# Altium schematic symbol library Andy_Parts.SchLib: 182 symbols (part 1 of 2)
Pins are listed as number, name and electrical type; pins without a type are passive.

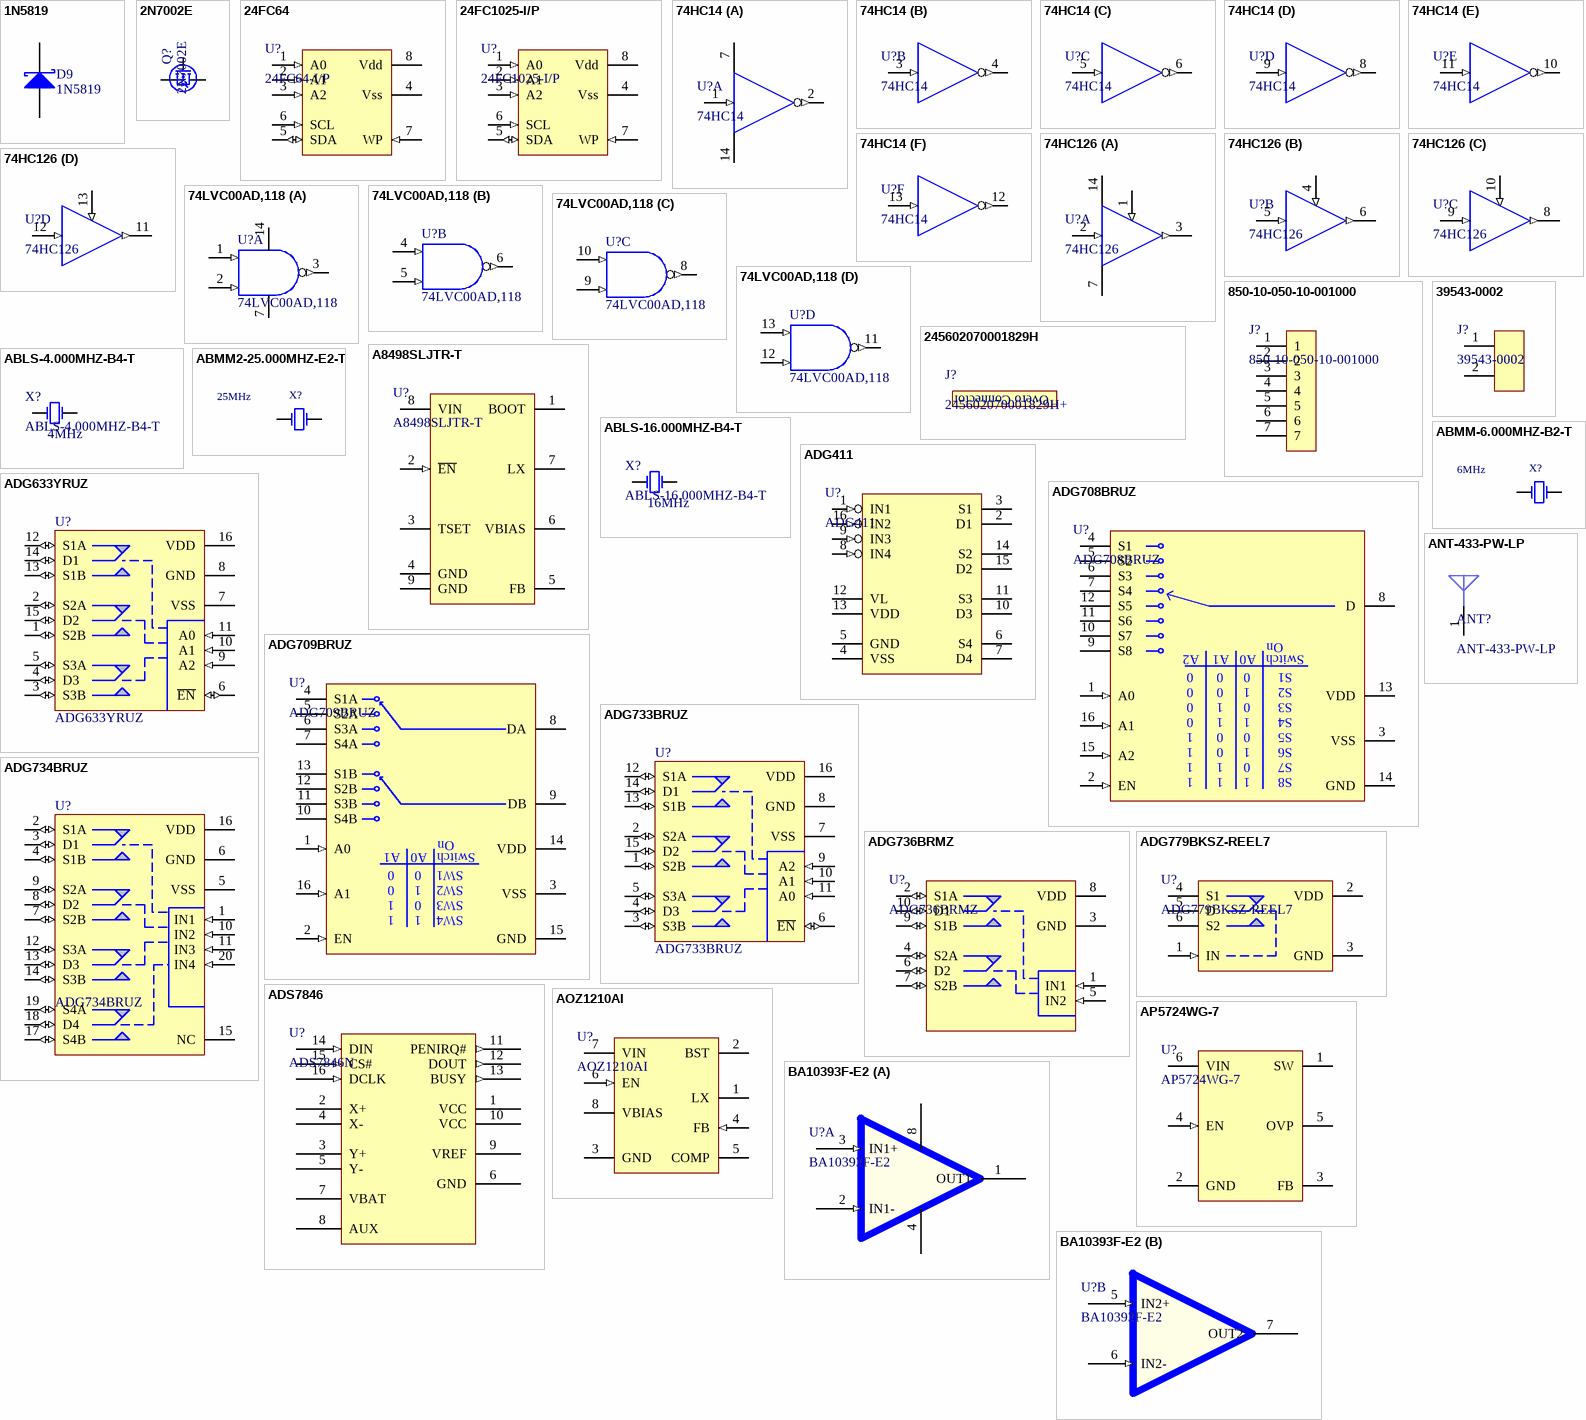
[diagram p0: symbols 1N5819 to BA10393F-E2]

## 1N5819
designator D9
Schottky Diode; Manufacturer: Fairchild Semiconductor; If: 1A; Vf: 0.6V; ReverseVoltage: 40V; PartNumber: 1N5819
footprint DO-41 (Diode, Axial; Body 5.2 x 2.7 mm (LxDia. max), Lead Dia. 0.86 mm (max))
pins: 1 A, 2 K

## 2N7002E
designator Q?
N-Channel MOSFET, 60V, 0.385A, 3ohms, SOT23; Manufacturer: NXP Semiconductor; TargetLibrary: Transistors; PartNumber: 2N7002E; Published: 8/13/2009; Publisher: Vanteon; LeadFree: Yes; RoHS: Yes; Status: Active; Supplier 1: Digi-Key; Supplier Part Number 1: 568-4858-1-ND
footprint SOT23 (SOT23, 3-Leads, Body 3.0x2.6mm, Pitch 0.95mm)
pins: 1 G, 2 S, 3 D

## 24FC64
designator U?, comment 24FC64-I/P
64k (8Kx 8) I2C serial EEPROM; Manufacturer: Microchip Technology; PartNumber: 24FC64-I/P
footprint DIp 8 (DIP, Plastic; 8 Leads; Row Spacing 7.62 mm; Pitch 2.54 mm)
pins: 1 A0 (in), 2 A1 (in), 3 A2 (in), 4 Vss (power), 5 SDA (io), 6 SCL (in), 7 WP (in), 8 Vdd (power)

## 24FC1025-I/P
designator U?
1024k (128K x 8) I2C serial EEPROM; Manufacturer: Microchip Technology; PartNumber: 24FC1025-I/P
footprint DIp 8 (DIP, Plastic; 8 Leads; Row Spacing 7.62 mm; Pitch 2.54 mm)
pins: 1 A0 (in), 2 A1 (in), 3 A2 (in), 4 Vss (power), 5 SDA (io), 6 SCL (in), 7 WP (in), 8 Vdd (power)

## 74HC14
designator U?
Hex Schottky inverter; Manufacturer: Fairchild Semiconductor; PartNumber: 74HC14
footprint DIP 14 (DIP, Plastic; 14 Leads; Row Spacing 7.62 mm; Pitch 2.54 mm)
part A pins: 1 In (in), 2 Out (out), 7 VCC (power), 14 GND (power)
part B pins: 3 In (in), 4 Out (out)
part C pins: 5 In (in), 6 Out (out)
part D pins: 8 Out (out), 9 In (in)
part E pins: 10 Out (out), 11 In (in)
part F pins: 12 Out (out), 13 In (in)

## 74HC126
designator U?
Quad tristate buffer; Manufacturer: Fairchild Semiconductor; PartNumber: 74HC126
footprint DIP 14 (DIP, Plastic; 14 Leads; Row Spacing 7.62 mm; Pitch 2.54 mm)
part A pins: 1 En (in), 2 In (in), 3 Out (out), 7 GND (power), 14 VCC (power)
part B pins: 4 En (in), 5 In (in), 6 Out (out)
part C pins: 8 Out (out), 9 In (in), 10 En (in)
part D pins: 11 Out (out), 12 In (in), 13 En (in)

## 74LVC00AD,118
designator U?
IC QUAD 2-IN NAND GATE 14-SOIC; Manufacturer: NXP Semiconductors; PartNumber: 74LVC00AD,118
footprint SOIC127P600X175-14N (SOIC, 14-Leads, Body 8.8x4.0mm (max), Pitch 1.27mm, IPC Medium Density)
part A pins: 1 1A (in), 2 1B (in), 3 1Y (out), 7 GND (power), 14 VCC (power)
part B pins: 4 2A (in), 5 2B (in), 6 2Y (out)
part C pins: 8 3Y (out), 9 3A (in), 10 3B (in)
part D pins: 11 4Y (out), 12 4A (in), 13 4B (in)

## 850-10-050-10-001000
designator J?
CONN HEADER .050" 50POS PCB GOLD; Manufacturer: Mill-Max; PartNumber: 850-10-050-10-001000
footprint 850-10-050-10-001000 (CONN HEADER .050" 50POS PCB GOLD)
pins: 1, 2, 3, 4, 5, 6, 7

## 39543-0002
designator J?
Molex 2 pos. terminal block, screw, wire to board; Manufacturer: Molex; PartNumber: 39543-0002
footprint Molex_Term_Block (Molex 2 pos. terminal block, wire to board)
pins: 1, 2

## 245602070001829H
designator J?, comment 245602070001829H+  (mechanical)
1.5mm stack height 70 pin connector; Manufacturer: Kyocera - Elco; PartNumber: 245602070001829H+; PartNumber2: 245602070001829H; PartNumber3: 245602070001829
text: Overo Connector

## A8498SLJTR-T
designator U?
IC REG HV 3A STEP DOWN 8-SOIC; Manufacturer: Allegro Microsystems, Inc.; PartNumber: A8498SLJTR-T
footprint SOIC127P600X170_HS-8N (SOIC, 8-Leads, Body 5.0x4.0mm (max), Pitch 1.27mm, IPC Medium Density)
pins: 1 BOOT, 2 ~{EN} (in), 3 TSET, 4 GND (power), 5 FB, 6 VBIAS, 7 LX, 8 VIN (power), 9 GND (power)

## ABLS-4.000MHZ-B4-T
designator X?  value 4MHz
CRYSTAL 4.000 MHZ 18PF SMD; Manufacturer: Abracon; PartNumber: ABLS-4.000MHZ-B4-T
footprint HCM49
pins: 1 OSC1, 2 OSC2

## ABLS-16.000MHZ-B4-T
designator X?  value 16MHz
CRYSTAL 16.000 MHZ 18PF SMD; Manufacturer: Abracon; PartNumber: ABLS-16.000MHZ-B4-T
footprint HCM49
pins: 1 OSC1, 2 OSC2

## ABMM2-25.000MHZ-E2-T
designator X?, comment 25MHz
Crystal 25MHz , 13pF, 6.0mm x 3.6mm, +/- 20ppm; PartNumber: ABMM2-25.000MHZ-E2-T; Manufacturer: Abracon Corporation; Tolerance: 20ppm; Value: 25MHz
footprint ABMM2 Series (Abracon ABMM2 series crystals)
pins: 1 OSC1, 3 OSC2

## ABMM-6.000MHZ-B2-T
designator X?, comment 6MHz
Crystal 6MHz , 18pF, 7.0mm x 5mm, +/- 50ppm; PartNumber: ABMM-6.000MHZ-B2-T; Manufacturer: Abracon Corporation; Tolerance: 50ppm; Value: 6MHz
footprint ABMM Series (Abracon ABMM series crystals)
pins: 1 OSC1, 3 OSC2

## ADG411
designator U?
Precision quad SPST switch; Manufacturer: Analog Devices; PartNumber: ADG411
footprint DIP 16 (DIP; 16 Leads; Row Spacing 7.62 mm; Pitch 2.54 mm)
pins: 1 IN1 (in), 2 D1, 3 S1, 4 VSS (power), 5 GND (power), 6 S4, 7 D4, 8 IN4 (in), 9 IN3 (in), 10 D3, 11 S3, 12 VL (power), 13 VDD (power), 14 S2, 15 D2, 16 IN2 (in)

## ADG633YRUZ
designator U?
CMOS ±5 V/+5 V/+3 V Triple SPDT Switch, TSSOP-16; Manufacturer: Analog Devices; Approved: Yes - M. Jablonski; TargetLibrary: Analog IC's; PartNumber: ADG633YRUZ; RoHS: Yes; LeadFree: Yes; Publisher: J. Johnson - Vanteon; Published: 6/24/2009; Status: Active; ComponentLink1URL: http://www.analog.com/static/imported-files/data_sheets/ADG633.pdf; ComponentLink1Description: Datasheet; Supplier 1: Digi-Key; Supplier Part Number 1: ADG633YRUZ-ND
pins: 1 S2B (io), 2 S2A (io), 3 S3B (io), 4 D3 (io), 5 S3A (io), 6 ~{EN} (io), 7 VSS (power), 8 GND (power), 9 A2 (in), 10 A1 (in), 11 A0 (in), 12 S1A (io), 13 S1B (io), 14 D1 (io), 15 D2 (io), 16 VDD (power)

## ADG708BRUZ
designator U?
IC MULTIPLEXER 8X1 16TSSOP; Manufacturer: Analog Devices; PartNumber: ADG708BRUZ
footprint TSSOP16 (SSOP, 16-Leads, Body 5.1x4.5mm (max), Pitch 0.65mm, IPC Medium Density)
pins: 1 A0 (in), 2 EN (in), 3 VSS (power), 4 S1, 5 S2, 6 S3, 7 S4, 8 D, 9 S8, 10 S7, 11 S6, 12 S5, 13 VDD (power), 14 GND (power), 15 A2 (in), 16 A1 (in)
text: On; Switch; 0

## ADG709BRUZ
designator U?
IC MULTIPLEXER DUAL 4X1 16TSSOP; Manufacturer: Analog Devices; PartNumber: ADG709BRUZ
footprint TSSOP16 (SSOP, 16-Leads, Body 5.1x4.5mm (max), Pitch 0.65mm, IPC Medium Density)
pins: 1 A0 (in), 2 EN (in), 3 VSS (power), 4 S1A, 5 S2A, 6 S3A, 7 S4A, 8 DA, 9 DB, 10 S4B, 11 S3B, 12 S2B, 13 S1B, 14 VDD (power), 15 GND (power), 16 A1 (in)
text: On; Switch; 0; SW1; SW2; SW3; SW4

## ADG733BRUZ
designator U?
IC SWITCH TRIPLE SPDT 16TSSOP; Manufacturer: Analog Devices; PartNumber: ADG733BRUZ
footprint TSSOP16 (SSOP, 16-Leads, Body 5.1x4.5mm (max), Pitch 0.65mm, IPC Medium Density)
pins: 1 S2B (io), 2 S2A (io), 3 S3B (io), 4 D3 (io), 5 S3A (io), 6 ~{EN} (io), 7 VSS (power), 8 GND (power), 9 A2 (in), 10 A1 (in), 11 A0 (in), 12 S1A (io), 13 S1B (io), 14 D1 (io), 15 D2 (io), 16 VDD (power)

## ADG734BRUZ
designator U?
IC SWITCH QUAD SPDT 20TSSOP; Manufacturer: Analog Devices; PartNumber: ADG734BRUZ
footprint TSOP65P640X120-20N (TSOP, 20-Leads, Body 6.6x4.5mm (max), Pitch 0.65mm, IPC Medium Density)
pins: 1 IN1 (in), 2 S1A (io), 3 D1 (io), 4 S1B (io), 5 VSS (power), 6 GND (power), 7 S2B (io), 8 D2 (io), 9 S2A (io), 10 IN2 (in), 11 IN3 (in), 12 S3A (io), 13 D3 (io), 14 S3B (io), 15 NC, 16 VDD (power), 17 S4B (io), 18 D4 (io), 19 S4A (io), 20 IN4 (in)

## ADG736BRMZ
designator U?
IC SWITCH DUAL SPDT 10MSOP; Manufacturer: AnalogDevices; PartNumber: ADG736BRMZ
footprint MSOP10_50P490X110 (MSOP, 10-Leads, Body 3.1x3.1mm (max), Pitch 0.50mm, IPC Medium Density)
pins: 1 IN1 (in), 2 S1A (io), 3 GND (power), 4 S2A (io), 5 IN2 (in), 6 D2 (io), 7 S2B (io), 8 VDD (power), 9 S1B (io), 10 D1 (io)

## ADG779BKSZ-REEL7
designator U?
IC SWITCH SPDT SC70-6; Manufacturer: Analog Devices; PartNumber: ADG779BKSZ-REEL7
footprint SC70-6P210X110-6N (SC-70, 6-Leads, Body 2.2x2.4mm (max), Pitch 0.65mm, IPC Medium Density)
pins: 1 IN (in), 2 VDD (power), 3 GND (power), 4 S1, 5 D, 6 S2

## ADS7846
designator U?, comment ADS7846N
IC 4WIRE TOUCH SCRN CONT 16TSSOP; Manufacturer: Texas Instruments; PartNumber: ADS7846N
footprint TSSOP16 (SSOP, 16-Leads, Body 5.1x4.5mm (max), Pitch 0.65mm, IPC Medium Density)
pins: 1 VCC (power), 2 X+, 3 Y+, 4 X-, 5 Y-, 6 GND (power), 7 VBAT, 8 AUX, 9 VREF (power), 10 VCC (power), 11 PENIRQ# (out), 12 DOUT (out), 13 BUSY (out), 14 DIN (in), 15 CS# (in), 16 DCLK (in)

## ANT-433-PW-LP
designator ANT?
433MHz antenna, 12MHz bandwidth; Manufacturer: Antenna Factor; PartNumber: ANT-433-PW-LP; Value: 433MHz
footprint ANT-433-PW-LP (433MHz antenna footprint)
pins: 1

## AOZ1210AI
designator U?
4.5V to 27V buck converter, 2A max; Manufacturer: Alpha & Omega Semiconductor Inc; PartNumber: AOZ1210AI
footprint SOIC8N (SOIC, 8-Leads, Body 5.0x4.0mm (max), Pitch 1.27mm, IPC Medium Density)
pins: 1 LX, 2 BST, 3 GND (power), 4 FB (in), 5 COMP, 6 EN (in), 7 VIN (power), 8 VBIAS

## AP5724WG-7
designator U?
IC LED DRVR WHITE BCKLGT SOT26-6; Manufacturer: Diodes Inc.; PartNumber: AP5724WG-7
footprint SOT26-6 (SOT23, 6-Leads, Body 3.0x3.0mm (max), Pitch 0.95mm, IPC Medium Density)
pins: 1 SW, 2 GND (power), 3 FB, 4 EN (in), 5 OVP, 6 VIN (power)

## BA10393F-E2
designator U?
IC COMPARATOR 2-CHANNEL; Manufacturer: Rohm; PartNumber: BA10393F-E2
footprint SOIC8N (SOIC, 8-Leads, Body 5.0x4.0mm (max), Pitch 1.27mm, IPC Medium Density)
part A pins: 1 OUT1 (oc), 2 IN1- (in), 3 IN1+ (in), 4 VEE (power), 8 VCC (power)
part B pins: 5 IN2+ (in), 6 IN2- (in), 7 OUT2 (oc)

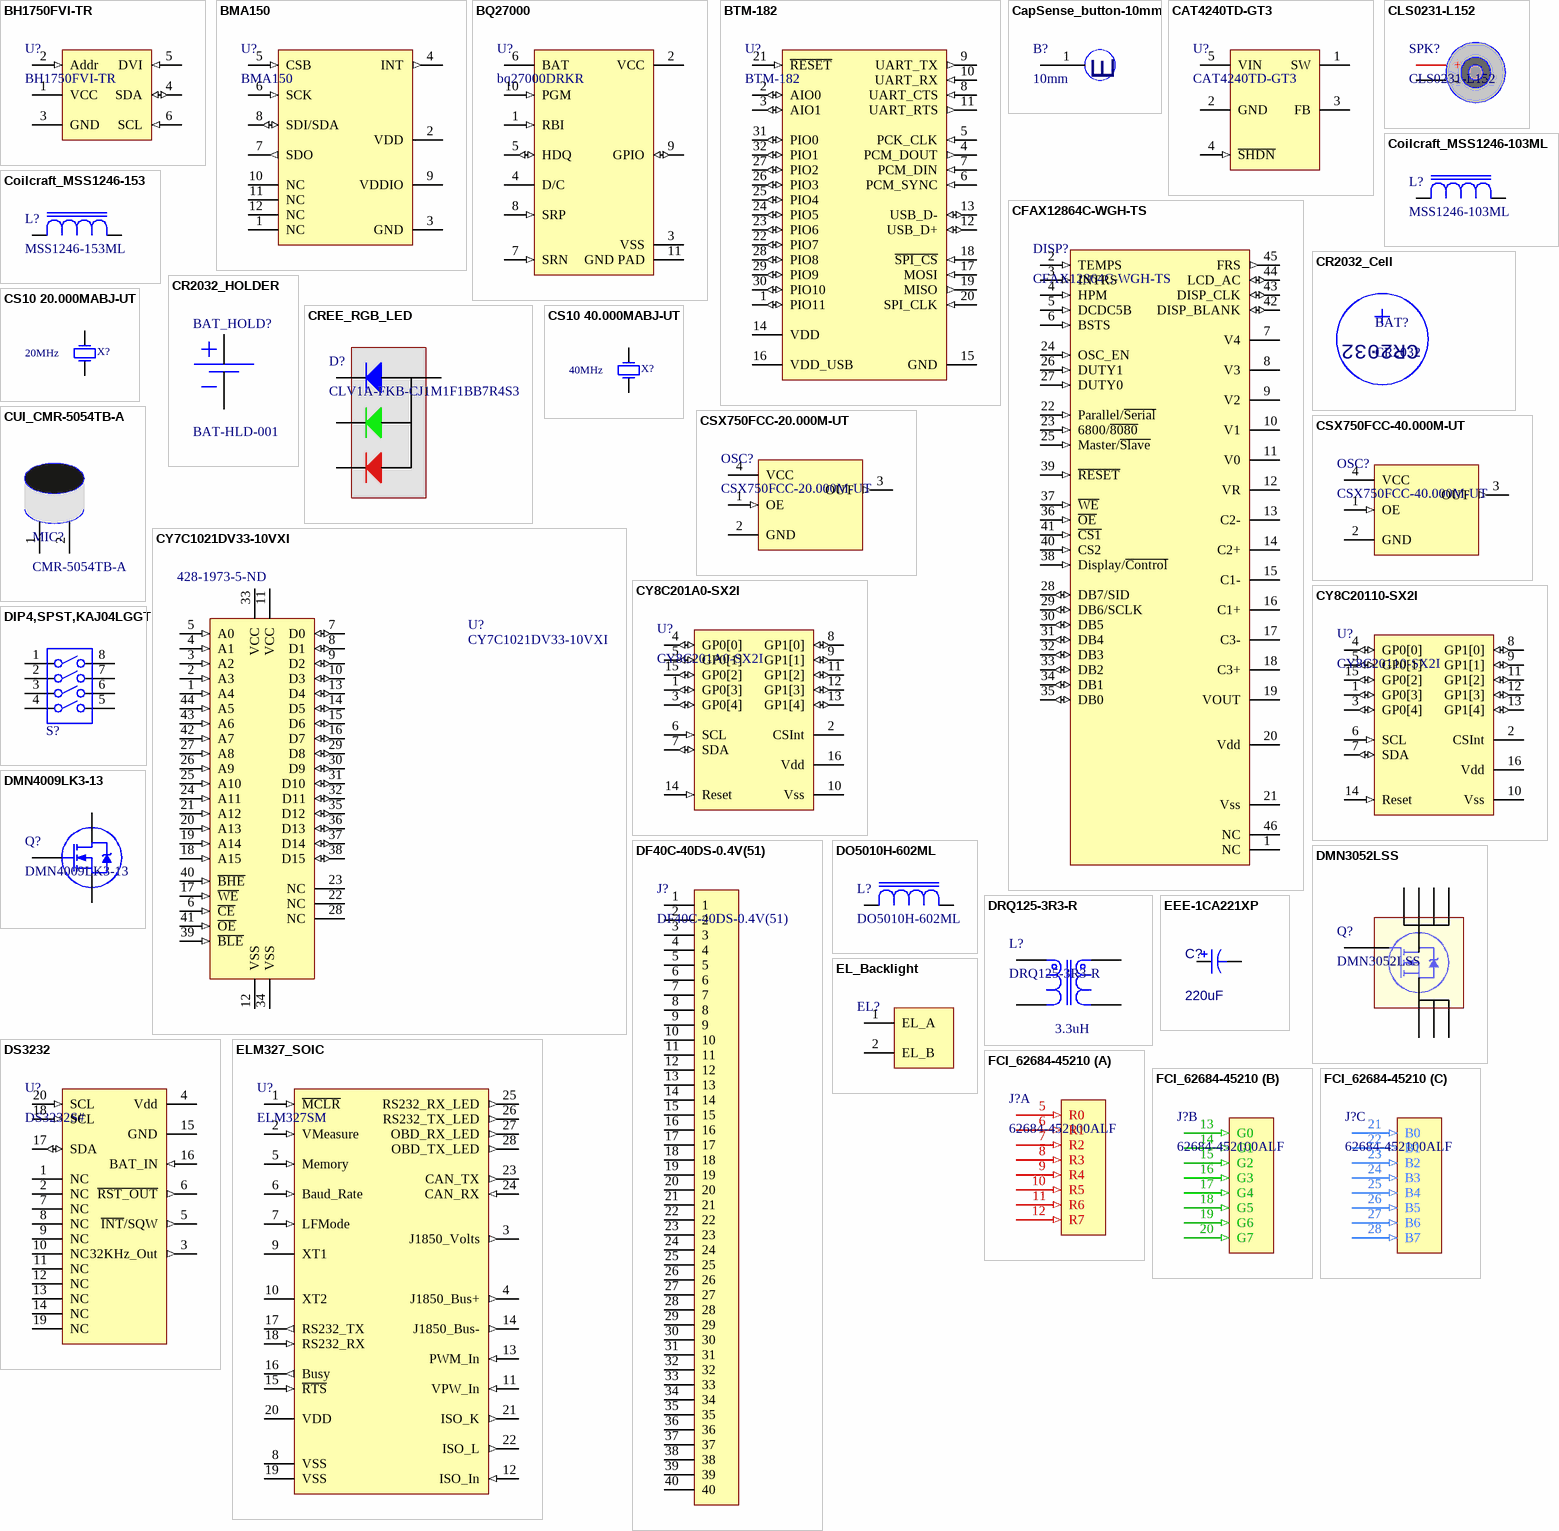
[diagram p1: symbols BH1750FVI-TR to FCI_62684-45210]

## BH1750FVI-TR
designator U?
IC AMBIENT LIGHT SENSOR WSOF6; Manufacturer: Rohm; PartNumber: BH1750FVI-TR
footprint WSOF-6N (TSSOP, 6-Leads, Body 1.7x2.7mm (max), Pitch 0.50mm, IPC Medium Density)
pins: 1 VCC (power), 2 Addr (in), 3 GND (power), 4 SDA (io), 5 DVI (in), 6 SCL (in)

## BMA150
designator U?
Digital, triaxial acceleration sensor; Manufacturer: Bosch Sensortec; PartNumber: BMA150
footprint BMA150
pins: 1 NC, 2 VDD (power), 3 GND (power), 4 INT (out), 5 CSB (in), 6 SCK (in), 7 SDO (out), 8 SDI/SDA (io), 9 VDDIO (power), 10 NC, 11 NC, 12 NC

## BQ27000
designator U?, comment bq27000DRKR
SINGLE CELL Li-Ion AND Li-Pol BATTERY GAS GAUGE IC FOR PORTABLE  APPLICATIONS (bqJUNIOR); Manufacturer: Texas Instruments; PartNumber: bq27000DRKR
footprint bq27000 (Footprint for BQ27000)
pins: 1 RBI (in), 2 VCC (power), 3 VSS (power), 4 D/C, 5 HDQ (io), 6 BAT (power), 7 SRN (in), 8 SRP (in), 9 GPIO (io), 10 PGM (in), 11 GND PAD (power)

## BTM-182
designator U?
Rayson BTM-182 Bluetooth Serial Module; Manufacturer: Rayson; PartNumber: BTM-182
footprint BTM-182 (Rayson BTM-182 Bluetooth serial module footprint)
pins: 1 PIO11 (io), 2 AIO0 (io), 3 AIO1 (io), 4 PCM_DOUT (out), 5 PCK_CLK (in), 6 PCM_SYNC (in), 7 PCM_DIN (in), 8 UART_CTS (in), 9 UART_TX (out), 10 UART_RX (in), 11 UART_RTS (out), 12 USB_D+ (io), 13 USB_D- (io), 14 VDD (power), 15 GND (power), 16 VDD_USB (power), 17 MOSI (in), 18 ~{SPI_CS} (in), 19 MISO (out), 20 SPI_CLK (in), 21 ~{RESET} (in), 22 PIO7 (io), 23 PIO6 (io), 24 PIO5 (io), 25 PIO4 (io), 26 PIO3 (io), 27 PIO2 (io), 28 PIO8 (io), 29 PIO9 (io), 30 PIO10 (io), 31 PIO0 (io), 32 PIO1 (io)

## CapSense_button-10mm
designator B?, comment 10mm  (graphical)
CapSense Button, 10mm; Value: 10mm
footprint CapSenseButton-10mm (CapSense Button, 10mm diameter)
pins: 1
text: E

## CAT4240TD-GT3
designator U?
IC LED DRVR WHITE BCKLGHT TSOT-5; Manufacturer: ON Semiconductor; PartNumber: CAT4240TD-GT3
footprint SOT-23-5 (SOT23, 5-Leads, Body 3.0x3.0mm (max), Pitch 0.95mm, IPC Medium Density)
pins: 1 SW, 2 GND (power), 3 FB, 4 ~{SHDN} (in), 5 VIN (power)

## CFAX12864C-WGH-TS
designator DISP?
128x64 graphic LCD with touchscreen and EL backlight; Manufacturer: Crystal Fontz; PartNumber: CFAX12864C-WGH-TS
footprint CFAX_LCD (Crystal Fontz 128 x 64 graphic LCD solder down area)
pins: 1 NC, 2 TEMPS (in), 3 INTRS (in), 4 HPM (in), 5 DCDC5B (in), 6 BSTS (in), 7 V4, 8 V3, 9 V2, 10 V1, 11 V0, 12 VR, 13 C2-, 14 C2+, 15 C1-, 16 C1+, 17 C3-, 18 C3+, 19 VOUT, 20 Vdd (power), 21 Vss (power), 22 Parallel/~{Serial} (in), 23 6800/~{8080} (in), 24 OSC_EN (in), 25 Master/~{Slave} (in), 26 DUTY1 (in), 27 DUTY0 (in), 28 DB7/SID (io), 29 DB6/SCLK (io), 30 DB5 (io), 31 DB4 (io), 32 DB3 (io), 33 DB2 (io), 34 DB1 (io), 35 DB0 (io), 36 ~{OE} (in), 37 ~{WE} (in), 38 Display/~{Control} (in), 39 ~{RESET} (in), 40 CS2 (in), 41 ~{CS1} (in), 42 DISP_BLANK (io), 43 DISP_CLK (io), 44 LCD_AC (io), 45 FRS (out), 46 NC

## CLS0231-L152
designator SPK?
SPEAKER 8OHMS 1.0W 23MM 6" LEADS; Manufacturer: CUI Inc; PartNumber: CLS0231-L152
footprint CLS0231-L152 (SPEAKER 8OHMS 1.0W 23MM 6" LEADS)
pins: 1 + (power), 2 - (power)

## Coilcraft_MSS1246-103ML
designator L?, comment MSS1246-103ML
Inductor, 10uH, MSS1246 series; Manufacturer: Coilcraft; PartNumber: MSS1246-103ML; Value: 10uH
footprint COILCRAFT_MSS1246 (Precision Wire Wound Inductor, 2-Leads, Body 12.0x12.0mm, IPC Medium Density)
pins: 1, 2

## Coilcraft_MSS1246-153
designator L?, comment MSS1246-153ML
Inductor, 15uH, MSS1246 series; Manufacturer: Coilcraft; PartNumber: MSS1246-153ML; Value: 15uH
footprint COILCRAFT_MSS1246 (Precision Wire Wound Inductor, 2-Leads, Body 12.0x12.0mm, IPC Medium Density)
pins: 1, 2

## CR2032_Cell
designator BAT?, comment CR2032  (mechanical)
CR2032 3V lithium coin cell; Manufacturer: Panasonic; Capacity: 225mA; Voltage: 3; Note: Requires battery holder; PartNumber: CR2032

## CR2032_HOLDER
designator BAT_HOLD?, comment BAT-HLD-001
CR2032 battery holder; Manufacturer: Linx Technologies Inc.; PartNumber: BAT-HLD-001
footprint CR2032_Holder (CR2032 Lithium Battery Holder)
pins: 1 + (power), 2 - (power)

## CREE_RGB_LED
designator D?, comment CLV1A-FKB-CJ1M1F1BB7R4S3
Cree RGB LED; Manufacturer: Cree Inc.; Vf_Red: 2V; Vf_Green: 3.2V; If_Max_Red: 50mA; If_Max_Blue: 25mA; PartNumber: CLV1A-FKB-CJ1M1F1BB7R4S3; Vf_Blue: 3.2V; If_Max_Green: 25mA
footprint CREE_RGB_LED (Cree Surface Mount RGB LED)
pins: 1, 2, 3, 4

## CS10 20.000MABJ-UT
designator X?, comment 20MHz
Crystal 20MHz , 18pF, 6.0mm x 3.5mm, +- 30ppm; PartNumber: CS10 20.000MABJ-UT; Manufacturer: Citizen America Corporation; Tolerance: 30ppm; Value: 20MHz
footprint Crystal_6mmx3.5mm (Citizen Crystal 6mm x 3.5mm)
pins: 1 OSC1, 2 OSC2

## CS10 40.000MABJ-UT
designator X?, comment 40MHz
Crystal 40MHz , 18pF, 6.0mm x 3.5mm, +- 30ppm; PartNumber: CS10 40.000MABJ-UT; Manufacturer: Citizen America Corporation; Tolerance: 30ppm; Value: 40MHz
footprint Crystal_6mmx3.5mm (Citizen Crystal 6mm x 3.5mm)
pins: 1 OSC1, 2 OSC2

## CSX750FCC-20.000M-UT
designator OSC?
SMD 20MHz 5V 50pF, Ceramic, 100ppm, -20C - +70C; Manufacturer: Citizen; PartNumber: CSX750FCC-20.000M-UT
footprint Oscillator, 5x7mm (Citizen 5x7mm oscillator footprint)
pins: 1 OE (in), 2 GND (power), 3 OUT (out), 4 VCC (power)

## CSX750FCC-40.000M-UT
designator OSC?
SMD 40MHz 5V 50pF, Ceramic, 100ppm, -20C - +70C; Manufacturer: Citizen; PartNumber: CSX750FCC-40.000M-UT
footprint Oscillator, 5x7mm (Citizen 5x7mm oscillator footprint)
pins: 1 OE (in), 2 GND (power), 3 OUT (out), 4 VCC (power)

## CUI_CMR-5054TB-A
designator MIC?, comment CMR-5054TB-A
MIC CONDENSER ELECT N/C -54DB; Manufacturer: CUI Inc.; PartNumber: CMR-5054TB-A
footprint CUI_CMR-5054TB-A (MIC CONDENSER ELECT N/C -54DB)
pins: 1 Signal, 2 GND

## CY7C1021DV33-10VXI
designator U?  Supplier Part Number 1: 428-1973-5-ND
64K x 16 Static RAM; Manufacturer: Cypress Semiconductor; PartNumber: CY7C1021DV33-10VXI; Supplier 1: Digi-Key
footprint Z44_N (SOP, 44-Leads, Body 18.4x10.16mm, Pitch 0.8mm, IPC Medium Density)
pins: 1 A4 (in), 2 A3 (in), 3 A2 (in), 4 A1 (in), 5 A0 (in), 6 ~{CE} (in), 7 D0 (io), 8 D1 (io), 9 D2 (io), 10 D3 (io), 11 VCC (power), 12 VSS (power), 13 D4 (io), 14 D5 (io), 15 D6 (io), 16 D7 (io), 17 ~{WE} (in), 18 A15 (in), 19 A14 (in), 20 A13 (in), 21 A12 (in), 22 NC, 23 NC, 24 A11 (in), 25 A10 (in), 26 A9 (in), 27 A8 (in), 28 NC, 29 D8 (io), 30 D9 (io), 31 D10 (io), 32 D11 (io), 33 VCC (power), 34 VSS (power), 35 D12 (io), 36 D13 (io), 37 D14 (io), 38 D15 (io), 39 ~{BLE} (in), 40 ~{BHE} (in), 41 ~{OE} (in), 42 A7 (in), 43 A6 (in), 44 A5 (in)

## CY8C201A0-SX2I
designator U?
Capsense Express, 10 configurable IO; Manufacturer: Cypress Semiconductor; PartNumber: CY8C201A0-SX2I
footprint SOIC16 (SOIC, 16-Leads, Body 10.0x4.0mm (max), Pitch 1.27mm, IPC Medium Density)
pins: 1 GP0[3] (io), 2 CSInt, 3 GP0[4] (io), 4 GP0[0] (io), 5 GP0[1] (io), 6 SCL (in), 7 SDA (io), 8 GP1[0] (io), 9 GP1[1] (io), 10 Vss (power), 11 GP1[2] (io), 12 GP1[3] (io), 13 GP1[4] (io), 14 Reset (in), 15 GP0[2] (io), 16 Vdd (power)

## CY8C20110-SX2I
designator U?
Capsense Express, 10 configurable IO; Manufacturer: Cypress Semiconductor; PartNumber: CY8C20110-SX2I
footprint SOIC16 (SOIC, 16-Leads, Body 10.0x4.0mm (max), Pitch 1.27mm, IPC Medium Density)
pins: 1 GP0[3] (io), 2 CSInt, 3 GP0[4] (io), 4 GP0[0] (io), 5 GP0[1] (io), 6 SCL (in), 7 SDA (io), 8 GP1[0] (io), 9 GP1[1] (io), 10 Vss (power), 11 GP1[2] (io), 12 GP1[3] (io), 13 GP1[4] (io), 14 Reset (in), 15 GP0[2] (io), 16 Vdd (power)

## DF40C-40DS-0.4V(51)
designator J?
CONN RCPT 40POS .4MM VERT SMD; Manufacturer: Hirose; PartNumber: DF40C-40DS-0.4V(51)
footprint DF40C-40DS-0.4V(51) (Hirose 40 pin board stacking connector)
pins: 1, 2, 3, 4, 5, 6, 7, 8, 9, 10, 11, 12, 13, 14, 15, 16, 17, 18, 19, 20, 21, 22, 23, 24, 25, 26, 27, 28, 29, 30, 31, 32, 33, 34, 35, 36, 37, 38, 39, 40

## DIP4,SPST,KAJ04LGGT
designator S?, comment KAJ04LGGT  (value not drawn)
DIP4, SPST KAJ04LGGT; Manufacturer: E-Switch; PartNumber: KAJ04LGGT
footprint Dip_Switch_4POS (4 position dip switch, E-Switch)
pins: 1 A, 2 A, 3 A, 4 A, 5 B, 6 B, 7 B, 8 B

## DMN3052LSS
designator Q?
SINGLE N-CHANNEL ENHANCEMENT MODE MOSFET; Manufacturer: Diodes Inc.; PartNumber: DMN3052LSS
footprint SOIC8N (SOIC, 8-Leads, Body 5.0x4.0mm (max), Pitch 1.27mm, IPC Medium Density)
pins: 1 Source, 2 Source, 3 Source, 4 Gate, 5 Drain, 6 Drain, 7 Drain, 8 Drain

## DMN4009LK3-13
designator Q?
40V N-CHANNEL ENHANCEMENT MODE MOSFET; Manufacturer: Diodes/Zetex; RDSon: 0.0085 Ohm; PartNumber: DMN4009LK3-13
footprint D2PAK (D2-PAK/TO-263-AB; 3 Leads (1 Cropped); Body 15.5 (inc. leads) x 10.5 mm (LxW max))
pins: 1 G, 2 S, 3 D

## DO5010H-602ML
designator L?
6uH, 12A peak, 7.5Arms, unshielded inductor; Manufacturer: Coilcraft; PartNumber: DO5010H-602ML; Value: 6uH
footprint DO5010H-602ML (Coilcraft DO5010H series inductor footprint)
pins: 1, 2

## DRQ125-3R3-R
designator L?  value 3.3uH
3.3uH dual winding, shielded inductor, 6.3mOhm, 9.26A; Manufacturer: Coiltronics; PartNumber: DRQ125-3R3-R
footprint DRQ-125_Series (Coiltronics DRQ125 series dual inductor)
pins: 1, 2, 3, 4

## DS3232
designator U?, comment DS3232S#
Extremely accurate RTC with SRAM. I2C; Manufacturer: Maxim; PartNumber: DS3232S#
footprint SO20 (300 mil wide SOIC, 20 pins)
pins: 1 NC, 2 NC, 3 32KHz_Out (out), 4 Vdd (power), 5 ~{INT}/SQW (out), 6 ~{RST_OUT} (out), 7 NC, 8 NC, 9 NC, 10 NC, 11 NC, 12 NC, 13 NC, 14 NC, 15 GND (power), 16 BAT_IN (in), 17 SDA (io), 18 SCL (in), 19 NC, 20 SCL (in)

## EEE-1CA221XP
designator C?, comment 220uF
CAP ELECT 220UF 16V VS SMD; Manufacturer: Panasonic; PartNumber: EEE-1CA221XP; Tolerance: +/-20%; Value: 220uF; Voltage: 16V
footprint Panasonic_D8 (Panasonic D8 size code electrolytic capacitor)
pins: 1, 2

## EL_Backlight
designator EL?  (value not drawn)  (no BOM)
EL Backlight for Crystal Fontz Graphic LCD
footprint LCD_EL_BACKLIGHT (Graphic LCD with EL backlight)
pins: 1 EL_A (power), 2 EL_B (power)

## ELM327_SOIC
designator U?, comment ELM327SM
OBDII Interpreter IC; Manufacturer: Elm Electronics; PartNumber: ELM327SM
footprint SOIC127P1030X264-28N (SOIC, 28-Leads, Body 18.1x7.6mm (max), Pitch 1.27mm, IPC Medium Density)
pins: 1 ~{MCLR} (in), 2 VMeasure (in), 3 J1850_Volts (out), 4 J1850_Bus+ (out), 5 Memory (in), 6 Baud_Rate (in), 7 LFMode (in), 8 VSS (power), 9 XT1, 10 XT2, 11 VPW_In (in), 12 ISO_In (in), 13 PWM_In (in), 14 J1850_Bus- (out), 15 ~{RTS} (in), 16 Busy (out), 17 RS232_TX (out), 18 RS232_RX (in), 19 VSS (power), 20 VDD (power), 21 ISO_K (out), 22 ISO_L (out), 23 CAN_TX (out), 24 CAN_RX (in), 25 RS232_RX_LED (out), 26 RS232_TX_LED (out), 27 OBD_RX_LED (out), 28 OBD_TX_LED (out)

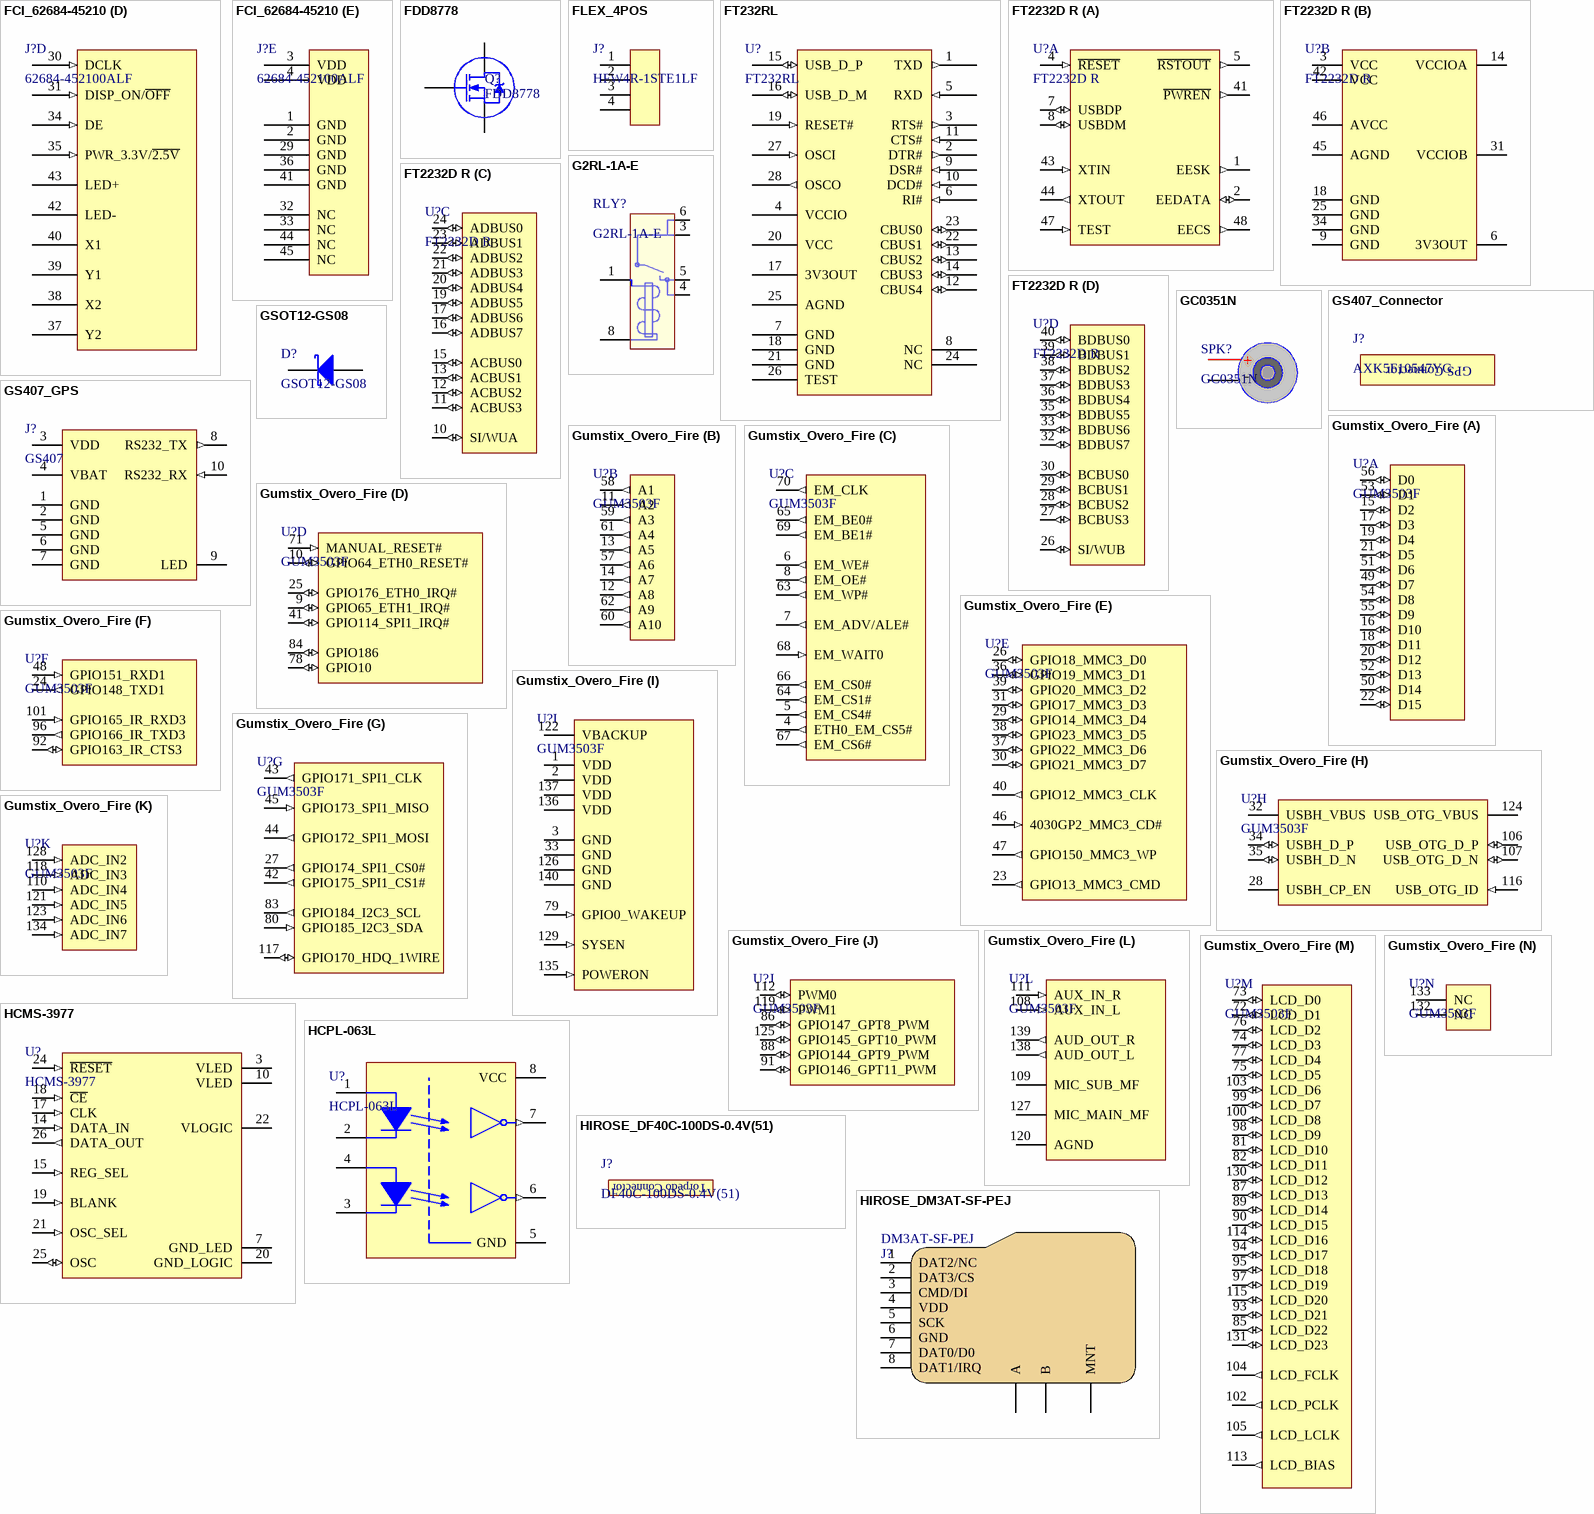
[diagram p2: symbols FCI_62684-45210 to HIROSE_DM3AT-SF-PEJ]

## FCI_62684-45210
designator J?, comment 62684-452100ALF
45 Pos 0.5 mm Pitch FPC/FFC Connector, Side Entry, Upper Side Contact, SMT, ZIF; Manufacturer: FCI; PartNumber: 62684-452100ALF
footprint 62684-452100ALF (FCI 45 pin 0.5mm pitch FPC connector)
part A pins: 5 R0 (in), 6 R1 (in), 7 R2 (in), 8 R3 (in), 9 R4 (in), 10 R5 (in), 11 R6 (in), 12 R7 (in)
part B pins: 13 G0 (in), 14 G1 (in), 15 G2 (in), 16 G3 (in), 17 G4 (in), 18 G5 (in), 19 G6 (in), 20 G7 (in)
part C pins: 21 B0 (in), 22 B1 (in), 23 B2 (in), 24 B3 (in), 25 B4 (in), 26 B5 (in), 27 B6 (in), 28 B7 (in)
part D pins: 30 DCLK (in), 31 DISP_ON/~{OFF} (in), 34 DE (in), 35 PWR_3.3V/~{2.5V} (in), 37 Y2, 38 X2, 39 Y1, 40 X1, 42 LED-, 43 LED+
part E pins: 1 GND (power), 2 GND (power), 3 VDD (power), 4 VDD (power), 29 GND (power), 32 NC, 33 NC, 36 GND (power), 41 GND (power), 44 NC, 45 NC

## FDD8778
designator Q?
NMOS, 25V, 35A, 14mOhm; Manufacturer: Fairchild Semiconductor; TargetLibrary: Transistors; PartNumber: FDD8778; Published: 8/13/2009; Publisher: Vanteon; LeadFree: Yes; RoHS: Yes; Status: Active; Supplier 1: Digi-Key; Supplier Part Number 1: FDD8778DKR-ND
footprint DPAK(TO-252) (D-PAK, 3-Pads, Body 6.2x6.7mm (max))
pins: 1 G, 2 D, 3 S

## FLEX_4POS
designator J?, comment HFW4R-1STE1LF
4 position flex cable connector, 1mm pitch; Manufacturer: FCI; PartNumber: HFW4R-1STE1LF
footprint FCI_FLEX (4 position, 1mm pitch flex connector)
pins: 1, 2, 3, 4

## FT232RL
designator U?
USB UART IC; Manufacturer: FTDI; PartNumber: FT232RL
footprint TSSOP65P780X200-28N (SOP, 28-Leads, Body 10.5x5.0mm (max), Pitch 0.65mm, IPC Medium Density)
pins: 1 TXD (out), 2 DTR# (out), 3 RTS# (out), 4 VCCIO (power), 5 RXD (in), 6 RI# (in), 7 GND (power), 8 NC, 9 DSR# (in), 10 DCD# (in), 11 CTS# (in), 12 CBUS4 (io), 13 CBUS2 (io), 14 CBUS3 (io), 15 USB_D_P (io), 16 USB_D_M (io), 17 3V3OUT (power), 18 GND (power), 19 RESET# (in), 20 VCC (power), 21 GND (power), 22 CBUS1 (io), 23 CBUS0 (io), 24 NC, 25 AGND (power), 26 TEST, 27 OSCI (in), 28 OSCO (out)

## FT2232D R
designator U?
IC USB UART/FIFO DUAL 48-LQFP; Manufacturer: FTDI Inc.; PartNumber: FT2232D R
footprint LQFP50P900X900X160-48N (LQFP, 48-Leads, Body 9.0x9.0mm (max), Pitch 0.50mm, IPC Medium Density)
part A pins: 1 EESK (out), 2 EEDATA (io), 4 ~{RESET} (in), 5 ~{RSTOUT} (out), 7 USBDP (io), 8 USBDM (io), 41 ~{PWREN} (out), 43 XTIN (in), 44 XTOUT (out), 47 TEST (in), 48 EECS (out)
part B pins: 3 VCC (power), 6 3V3OUT (power), 9 GND (power), 14 VCCIOA (power), 18 GND (power), 25 GND (power), 31 VCCIOB (power), 34 GND (power), 42 VCC (power), 45 AGND (power), 46 AVCC (power)
part C pins: 10 SI/WUA (io), 11 ACBUS3 (io), 12 ACBUS2 (io), 13 ACBUS1 (io), 15 ACBUS0 (io), 16 ADBUS7 (io), 17 ADBUS6 (io), 19 ADBUS5 (io), 20 ADBUS4 (io), 21 ADBUS3 (io), 22 ADBUS2 (io), 23 ADBUS1 (io), 24 ADBUS0 (io)
part D pins: 26 SI/WUB (io), 27 BCBUS3 (io), 28 BCBUS2 (io), 29 BCBUS1 (io), 30 BCBUS0 (io), 32 BDBUS7 (io), 33 BDBUS6 (io), 35 BDBUS5 (io), 36 BDBUS4 (io), 37 BDBUS3 (io), 38 BDBUS2 (io), 39 BDBUS1 (io), 40 BDBUS0 (io)

## G2RL-1A-E
designator RLY?
5V SPST-NO PCB relay; Manufacturer: Omron; Contact Current: 12A; Coil Current: 80mA; PartNumber: G2RL-1A-E
footprint G2_RELAY (Omron G2 series SPST PCB relay)
pins: 1 Coil, 3 Common, 4 NO, 5 NO, 6 Common, 8 Coil

## GC0351N
designator SPK?  (mechanical)
SPEAKER 16X35MM 8 OHMS 1WATT; Manufacturer: CUI Inc; PartNumber: GC0351N
footprint CUI_GC0351N (CUI GC0351N 16mm x 35mm speaker)
text: +; -

## GS407_Connector
designator J?, comment AXK5F10547YG  (mechanical)
GPS Module mating connector; Manufacturer: Panasonic; PartNumber: AXK5F10547YG
text: GPS Connector

## GS407_GPS
designator J?, comment GS407
GS407 GPS unit with ublox LEA-5H module and helical antenna; Manufacturer: S.P.K. Electronics Co., Ltd.; PartNumber: GS407; Distributor: SparkFun Electronics
footprint GS407 (GPS module w/ helical antenna)
pins: 1 GND (power), 2 GND (power), 3 VDD (power), 4 VBAT (power), 5 GND (power), 6 GND (power), 7 GND (power), 8 RS232_TX (out), 9 LED, 10 RS232_RX (in)

## GSOT12-GS08
designator D?
Single line ESD protection; Manufacturer: Vishay; PartNumber: GSOT12-GS08
footprint SOT23 (SOT23, 3-Leads, Body 3.0x2.6mm, Pitch 0.95mm)
pins: 1 A, 3 K

## Gumstix_Overo_Fire
designator U?, comment GUM3503F
Gumstix Overo Fire computer on module; PartNumber: GUM3503F; Manufacturer: Gumstix
footprint Gumstix_Overo_Fire (Gumstix Overo Fire Computer on Module)
part A pins: 15 D2 (io), 16 D10 (io), 17 D3 (io), 18 D11 (io), 19 D4 (io), 20 D12 (io), 21 D5 (io), 22 D15 (io), 49 D7 (io), 50 D14 (io), 51 D6 (io), 52 D13 (io), 53 D1 (io), 54 D8 (io), 55 D9 (io), 56 D0 (io)
part B pins: 11 A2 (out), 12 A8 (out), 13 A5 (out), 14 A7 (out), 57 A6 (out), 58 A1 (out), 59 A3 (out), 60 A10 (out), 61 A4 (out), 62 A9 (out)
part C pins: 4 ETH0_EM_CS5# (out), 5 EM_CS4# (out), 6 EM_WE# (out), 7 EM_ADV/ALE# (out), 8 EM_OE# (out), 63 EM_WP# (out), 64 EM_CS1# (out), 65 EM_BE0# (out), 66 EM_CS0# (out), 67 EM_CS6# (out), 68 EM_WAIT0 (in), 69 EM_BE1# (out), 70 EM_CLK (out)
part D pins: 9 GPIO65_ETH1_IRQ# (io), 10 GPIO64_ETH0_RESET# (io), 25 GPIO176_ETH0_IRQ# (io), 41 GPIO114_SPI1_IRQ# (io), 71 MANUAL_RESET# (in), 78 GPIO10 (io), 84 GPIO186 (io)
part E pins: 23 GPIO13_MMC3_CMD (out), 26 GPIO18_MMC3_D0 (io), 29 GPIO14_MMC3_D4 (io), 30 GPIO21_MMC3_D7 (io), 31 GPIO17_MMC3_D3 (io), 36 GPIO19_MMC3_D1 (io), 37 GPIO22_MMC3_D6 (io), 38 GPIO23_MMC3_D5 (io), 39 GPIO20_MMC3_D2 (io), 40 GPIO12_MMC3_CLK (out), 46 4030GP2_MMC3_CD# (in), 47 GPIO150_MMC3_WP (out)
part F pins: 24 GPIO148_TXD1 (out), 48 GPIO151_RXD1 (in), 92 GPIO163_IR_CTS3 (io), 96 GPIO166_IR_TXD3 (out), 101 GPIO165_IR_RXD3 (in)
part G pins: 27 GPIO174_SPI1_CS0# (out), 42 GPIO175_SPI1_CS1# (out), 43 GPIO171_SPI1_CLK (out), 44 GPIO172_SPI1_MOSI (out), 45 GPIO173_SPI1_MISO (in), 80 GPIO185_I2C3_SDA (in), 83 GPIO184_I2C3_SCL (out), 117 GPIO170_HDQ_1WIRE (io)
part H pins: 28 USBH_CP_EN (power), 32 USBH_VBUS (power), 34 USBH_D_P (io), 35 USBH_D_N (io), 106 USB_OTG_D_P (io), 107 USB_OTG_D_N (io), 116 USB_OTG_ID (in), 124 USB_OTG_VBUS (power)
part I pins: 1 VDD (power), 2 VDD (power), 3 GND (power), 33 GND (power), 79 GPIO0_WAKEUP (in), 122 VBACKUP (power), 126 GND (power), 129 SYSEN (in), 135 POWERON (in), 136 VDD (power), 137 VDD (power), 140 GND (power)
part J pins: 86 GPIO147_GPT8_PWM (io), 88 GPIO144_GPT9_PWM (io), 91 GPIO146_GPT11_PWM (io), 112 PWM0 (io), 119 PWM1 (io), 125 GPIO145_GPT10_PWM (io)
part K pins: 110 ADC_IN4 (in), 118 ADC_IN3 (in), 121 ADC_IN5 (in), 123 ADC_IN6 (in), 128 ADC_IN2 (in), 134 ADC_IN7 (in)
part L pins: 108 AUX_IN_L (in), 109 MIC_SUB_MF, 111 AUX_IN_R (in), 120 AGND (power), 127 MIC_MAIN_MF, 138 AUD_OUT_L (out), 139 AUD_OUT_R (out)
part M pins: 72 LCD_D1 (io), 73 LCD_D0 (io), 74 LCD_D3 (io), 75 LCD_D5 (io), 76 LCD_D2 (io), 77 LCD_D4 (io), 81 LCD_D10 (io), 82 LCD_D11 (io), 85 LCD_D22 (io), 87 LCD_D13 (io), 89 LCD_D14 (io), 90 LCD_D15 (io), 93 LCD_D21 (io), 94 LCD_D17 (io), 95 LCD_D18 (io), 97 LCD_D19 (io), 98 LCD_D9 (io), 99 LCD_D7 (io), 100 LCD_D8 (io), 102 LCD_PCLK (out), 103 LCD_D6 (io), 104 LCD_FCLK (out), 105 LCD_LCLK (out), 113 LCD_BIAS (out), 114 LCD_D16 (io), 115 LCD_D20 (io), 130 LCD_D12 (io), 131 LCD_D23 (io)
part N pins: 132 NC, 133 NC

## HCMS-3977
designator U?
1 x 8 0.20" Character LED display, Green; Manufacturer: Avago Technologies; PartNumber: HCMS-3977; Value: Green
footprint HCMS-3977 (HCMS-3977 Matrix LED display footprint)
pins: 3 VLED (power), 7 GND_LED (power), 10 VLED (power), 14 DATA_IN (in), 15 REG_SEL (in), 17 CLK (in), 18 ~{CE} (in), 19 BLANK (in), 20 GND_LOGIC (power), 21 OSC_SEL (in), 22 VLOGIC (power), 24 ~{RESET} (in), 25 OSC (io), 26 DATA_OUT (out)

## HCPL-063L
designator U?
High Speed LVTTL Compatible 3.3 Volt Optocouplers; Manufacturer: Avago Technologies; PartNumber: HCPL-063L
footprint SOIC8N (SOIC, 8-Leads, Body 5.0x4.0mm (max), Pitch 1.27mm, IPC Medium Density)
pins: 1 ANODE, 2 CATHODE, 3 CATHODE, 4 ANODE, 5 GND (power), 6 VO (out), 7 VO (out), 8 VCC (power)

## HIROSE_DF40C-100DS-0.4V(51)
designator J?, comment DF40C-100DS-0.4V(51)  (mechanical)
1.5mm stack height 100 pin connector; Manufacturer: Hirose; PartNumber: DF40C-100DS-0.4V(51); Supplier 1: Digi-Key; Supplier Part Number 1: H11615CT-ND
text: Torpedo Connector

## HIROSE_DM3AT-SF-PEJ
designator J?, comment DM3AT-SF-PEJ
MicroSD Card Socket, SMT, top mount, Push In/Push Out; Manufacturer: Hirose; Approved: Yes - AHonecker; TargetLibrary: InterfaceConnectors; PartNumber: DM3AT-SF-PEJ; Publisher: L. Johnson - Vanteon; ComponentLink1Description: Datasheet; ComponentLink1URL: http://www.hirose.co.jp/cataloge_hp/e60900232.pdf; LeadFree: Yes; Published: 3/16/2010; RoHS: Yes; Status: Active; Supplier 1: Digi-Key; Supplier Part Number 1: HR1939CT-ND
footprint DM3AT-SF-PEJ (CONN MICRO SD R/A PUSH-PUSH SMD)
pins: 1 DAT2/NC, 2 DAT3/CS, 3 CMD/DI, 4 VDD, 5 SCK, 6 GND, 7 DAT0/D0, 8 DAT1/IRQ, A, B (power), MNT

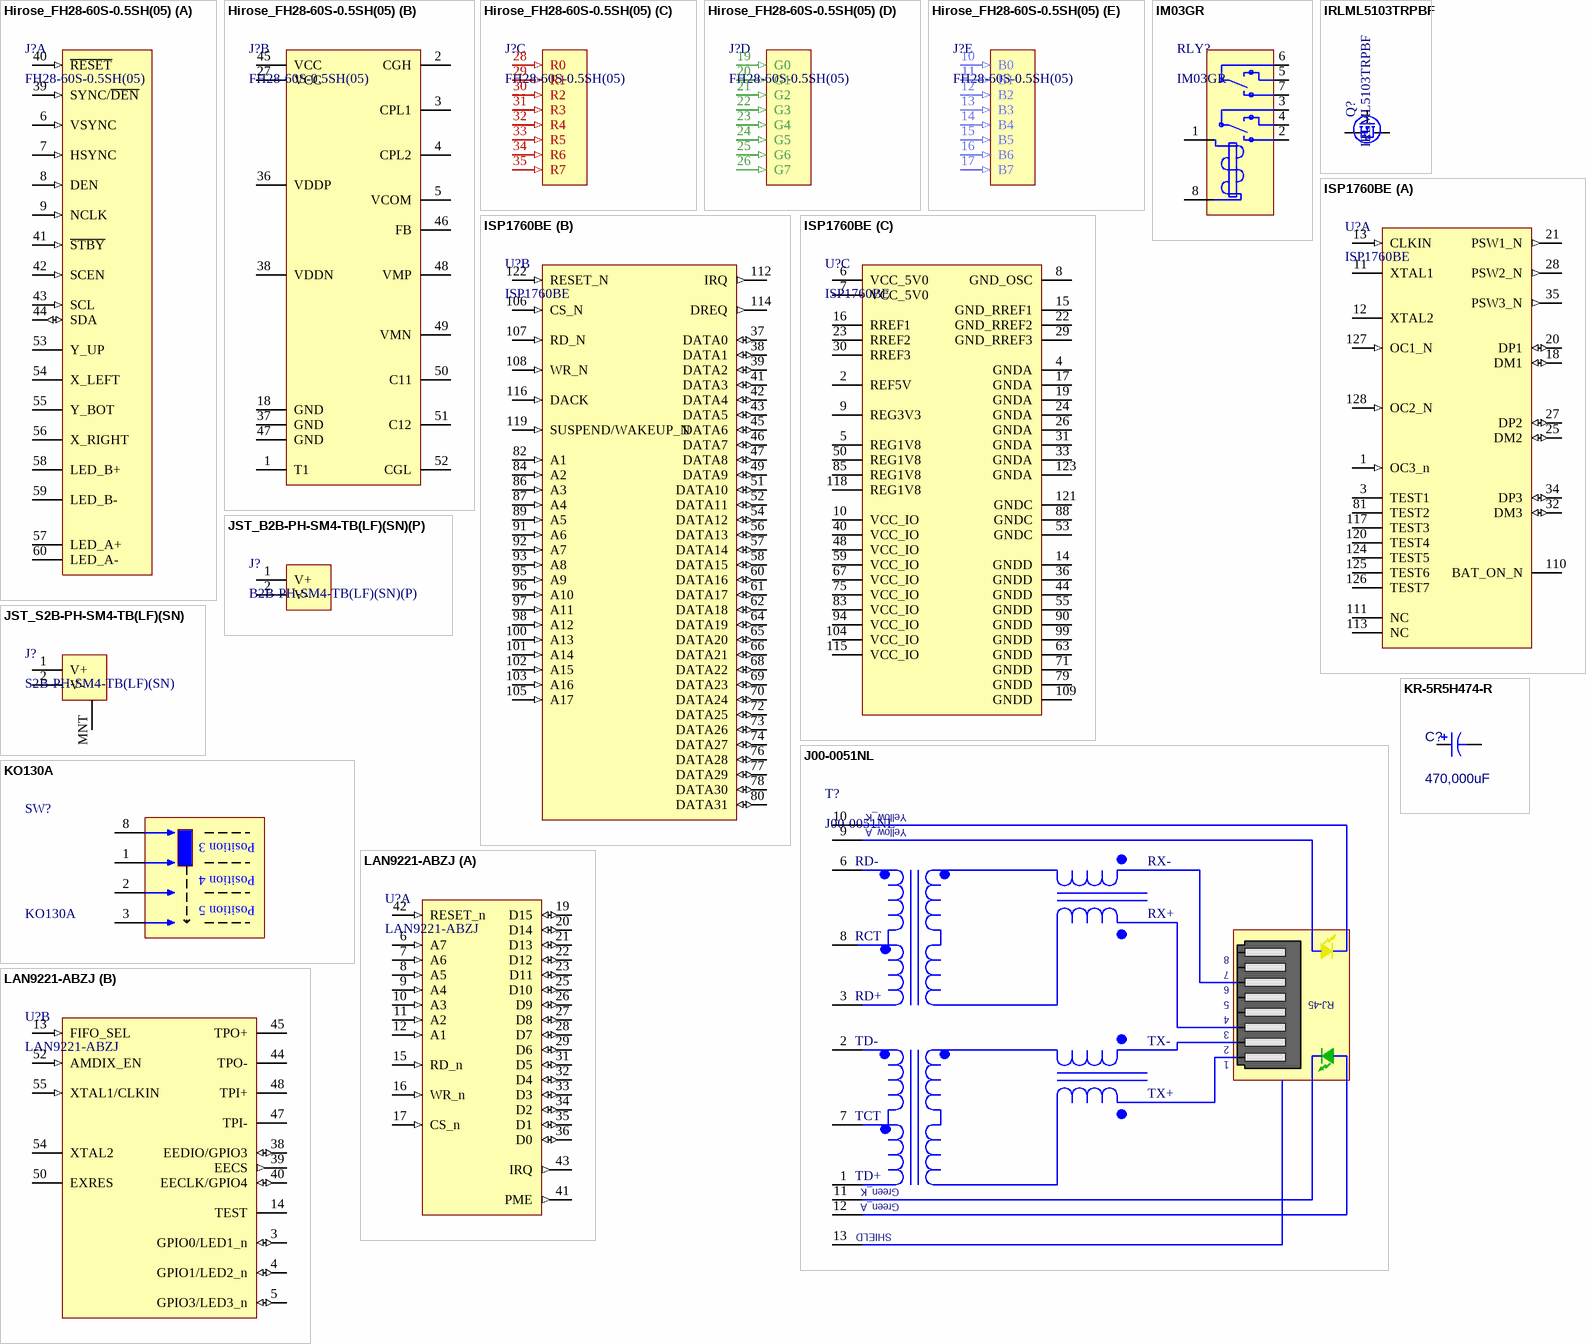
[diagram p3: symbols Hirose_FH28-60S-0.5SH(05) to LAN9221-ABZJ]

## Hirose_FH28-60S-0.5SH(05)
designator J?, comment FH28-60S-0.5SH(05)
FPC connector for TPO 4.3" LCD; Manufacturer: Hirose; PartNumber: FH28-60S-0.5SH(05)
footprint Hirose_FH28-61S (60 pin FPC, 0.5mm pitch)
part A pins: 6 VSYNC (in), 7 HSYNC (in), 8 DEN (in), 9 NCLK (in), 39 SYNC/~{DEN} (in), 40 ~{RESET} (in), 41 ~{STBY} (in), 42 SCEN (in), 43 SCL (in), 44 SDA (io), 53 Y_UP, 54 X_LEFT, 55 Y_BOT, 56 X_RIGHT, 57 LED_A+, 58 LED_B+, 59 LED_B-, 60 LED_A-
part B pins: 1 T1, 2 CGH, 3 CPL1, 4 CPL2, 5 VCOM, 18 GND (power), 27 VCC (power), 36 VDDP (power), 37 GND (power), 38 VDDN (power), 45 VCC (power), 46 FB, 47 GND, 48 VMP, 49 VMN, 50 C11, 51 C12, 52 CGL
part C pins: 28 R0 (in), 29 R1 (in), 30 R2 (in), 31 R3 (in), 32 R4 (in), 33 R5 (in), 34 R6 (in), 35 R7 (in)
part D pins: 19 G0 (in), 20 G1 (in), 21 G2 (in), 22 G3 (in), 23 G4 (in), 24 G5 (in), 25 G6 (in), 26 G7 (in)
part E pins: 10 B0 (in), 11 B1 (in), 12 B2 (in), 13 B3 (in), 14 B4 (in), 15 B5 (in), 16 B6 (in), 17 B7 (in)

## IM03GR
designator RLY?
5V DPDT SMT relay; Manufacturer: Tyco Electronics; Contact Current: 2A; Coil Current: 28mA; PartNumber: IM03GR
footprint IM03GR_Footprint (Footprint for AXICOM series of relays)
pins: 1 Coil, 2 NC, 3 Common, 4 NO, 5 NO, 6 Common, 7 NC, 8 Coil

## IRLML5103TRPBF
designator Q?
P-Channel MOSFET, 30V, 760mA, 0.6ohms, SOT23; Manufacturer: International Rectifier; TargetLibrary: Transistors; PartNumber: IRLML5103TRPBF; Published: 8/13/2009; Publisher: Vanteon; LeadFree: Yes; RoHS: Yes; Status: Active; Supplier 1: Digi-Key
footprint SOT23 (SOT23, 3-Leads, Body 3.0x2.6mm, Pitch 0.95mm)
pins: 1 G, 2 S, 3 D

## ISP1760BE
designator U?
Embedded Hi-Speed USB host controller; Manufacturer: ST/Ericsson; PartNumber: ISP1760BE
footprint LQFP50P1600X2200X160-128N (LQFP, 128-Leads, Body 22.1x16.1mm (max), Pitch 0.50mm, IPC Medium Density)
part A pins: 1 OC3_n (in), 3 TEST1, 11 XTAL1, 12 XTAL2, 13 CLKIN (in), 18 DM1 (io), 20 DP1 (io), 21 PSW1_N (out), 25 DM2 (io), 27 DP2 (io), 28 PSW2_N (out), 32 DM3 (io), 34 DP3 (io), 35 PSW3_N (out), 81 TEST2, 110 BAT_ON_N (oc), 111 NC, 113 NC, 117 TEST3, 120 TEST4, 124 TEST5, 125 TEST6, 126 TEST7, 127 OC1_N (in), 128 OC2_N (in)
part B pins: 37 DATA0 (io), 38 DATA1 (io), 39 DATA2 (io), 41 DATA3 (io), 42 DATA4 (io), 43 DATA5 (io), 45 DATA6 (io), 46 DATA7 (io), 47 DATA8 (io), 49 DATA9 (io), 51 DATA10 (io), 52 DATA11 (io), 54 DATA12 (io), 56 DATA13 (io), 57 DATA14 (io), 58 DATA15 (io), 60 DATA16 (io), 61 DATA17 (io), 62 DATA18 (io), 64 DATA19 (io), 65 DATA20 (io), 66 DATA21 (io), 68 DATA22 (io), 69 DATA23 (io), 70 DATA24 (io), 72 DATA25 (io), 73 DATA26 (io), 74 DATA27 (io), 76 DATA28 (io), 77 DATA29 (io), 78 DATA30 (io), 80 DATA31 (io), 82 A1 (in), 84 A2 (in), 86 A3 (in), 87 A4 (in), 89 A5 (in), 91 A6 (in), 92 A7 (in), 93 A8 (in), 95 A9 (in), 96 A10 (in), 97 A11 (in), 98 A12 (in), 100 A13 (in), 101 A14 (in), 102 A15 (in), 103 A16 (in), 105 A17 (in), 106 CS_N (in), 107 RD_N (in), 108 WR_N (in), 112 IRQ (out), 114 DREQ (out), 116 DACK (in), 119 SUSPEND/WAKEUP_N (in), 122 RESET_N (in)
part C pins: 2 REF5V (power), 4 GNDA (power), 5 REG1V8 (power), 6 VCC_5V0 (power), 7 VCC_5V0 (power), 8 GND_OSC (power), 9 REG3V3 (power), 10 VCC_IO (power), 14 GNDD (power), 15 GND_RREF1 (power), 16 RREF1 (power), 17 GNDA (power), 19 GNDA (power), 22 GND_RREF2 (power), 23 RREF2 (power), 24 GNDA (power), 26 GNDA (power), 29 GND_RREF3 (power), 30 RREF3 (power), 31 GNDA (power), 33 GNDA (power), 36 GNDD (power), 40 VCC_IO (power), 44 GNDD (power), 48 VCC_IO (power), 50 REG1V8 (power), 53 GNDC (power), 55 GNDD (power), 59 VCC_IO (power), 63 GNDD (power), 67 VCC_IO (power), 71 GNDD (power), 75 VCC_IO (power), 79 GNDD (power), 83 VCC_IO (power), 85 REG1V8 (power), 88 GNDC (power), 90 GNDD (power), 94 VCC_IO (power), 99 GNDD (power), 104 VCC_IO (power), 109 GNDD (power), 115 VCC_IO (power), 118 REG1V8 (power), 121 GNDC (power), 123 GNDA (power)

## J00-0051NL
designator T?
10 Base T, RJ-45 jack with integrated magnetics and LEDs; Manufacturer: Pulse Engineering; Approved: Yes by Implementation; PartNumber: J00-0051NL; RoHS: Yes; LeadFree: Yes; Publisher: Vanteon - AHonecker; Published: 8/13/2009; Status: Active
footprint PULSE_STAR_JACK (Magjack RJ-45 w/ integrated magnetics and LEDs, 10 base T)
pins: 1 TD+, 2 TD-, 3 RD1+, 6 RD-, 7 TCT, 8 RCT, 9, 10, 11, 12, 13 SHIELD
text: Yellow_K; Yellow_A; RX-; RX+; 5; RJ-45; RD+; 4; TX-; TX+; Green_K; Green_A

## JST_B2B-PH-SM4-TB(LF)(SN)(P)
designator J?, comment B2B-PH-SM4-TB(LF)(SN)(P)
CONN HEADER PH TOP 2POS 2MM SMD; Manufacturer: JST; PartNumber: B2B-PH-SM4-TB(LF)(SN)(P); Supplier 1: Digi-Key
footprint JST_2MM_2POS_TOP (CONN HEADER PH TOP 2POS 2MM SMD)
pins: 1 V+ (power), 2 V- (power)

## JST_S2B-PH-SM4-TB(LF)(SN)
designator J?, comment S2B-PH-SM4-TB(LF)(SN)
CONN HEADER PH SIDE 2POS 2MM SMD; Manufacturer: JST; PartNumber: S2B-PH-SM4-TB(LF)(SN); Supplier 1: Digi-Key; Supplier Part Number 1: 455-1749-1-ND
footprint JST_2MM_2POS_SIDE (CONN HEADER PH SIDE 2POS 2MM SMD)
pins: 1 V+ (power), 2 V- (power), MNT (power)

## KO130A
designator SW?  (graphical)
Key switch, 3 positions, key pull possible at position 3; Manufacturer: E-Switch; PartNumber: KO130A
pins: 1, 2 Common, 3, 8
text: Position 3; Position 4; Position 5

## KR-5R5H474-R
designator C?, comment 470,000uF
Supercapacitors 0.47F 5.5volts HORZ; Manufacturer: Cooper Bussmann; PartNumber: KR-5R5H474-R; Tolerance: -20%/+80%; Voltage: 5.5V; Value: 470,000uF
footprint KR-5R5H474-R (Cooper/Bussmann H-type super cap)
pins: 1, 2

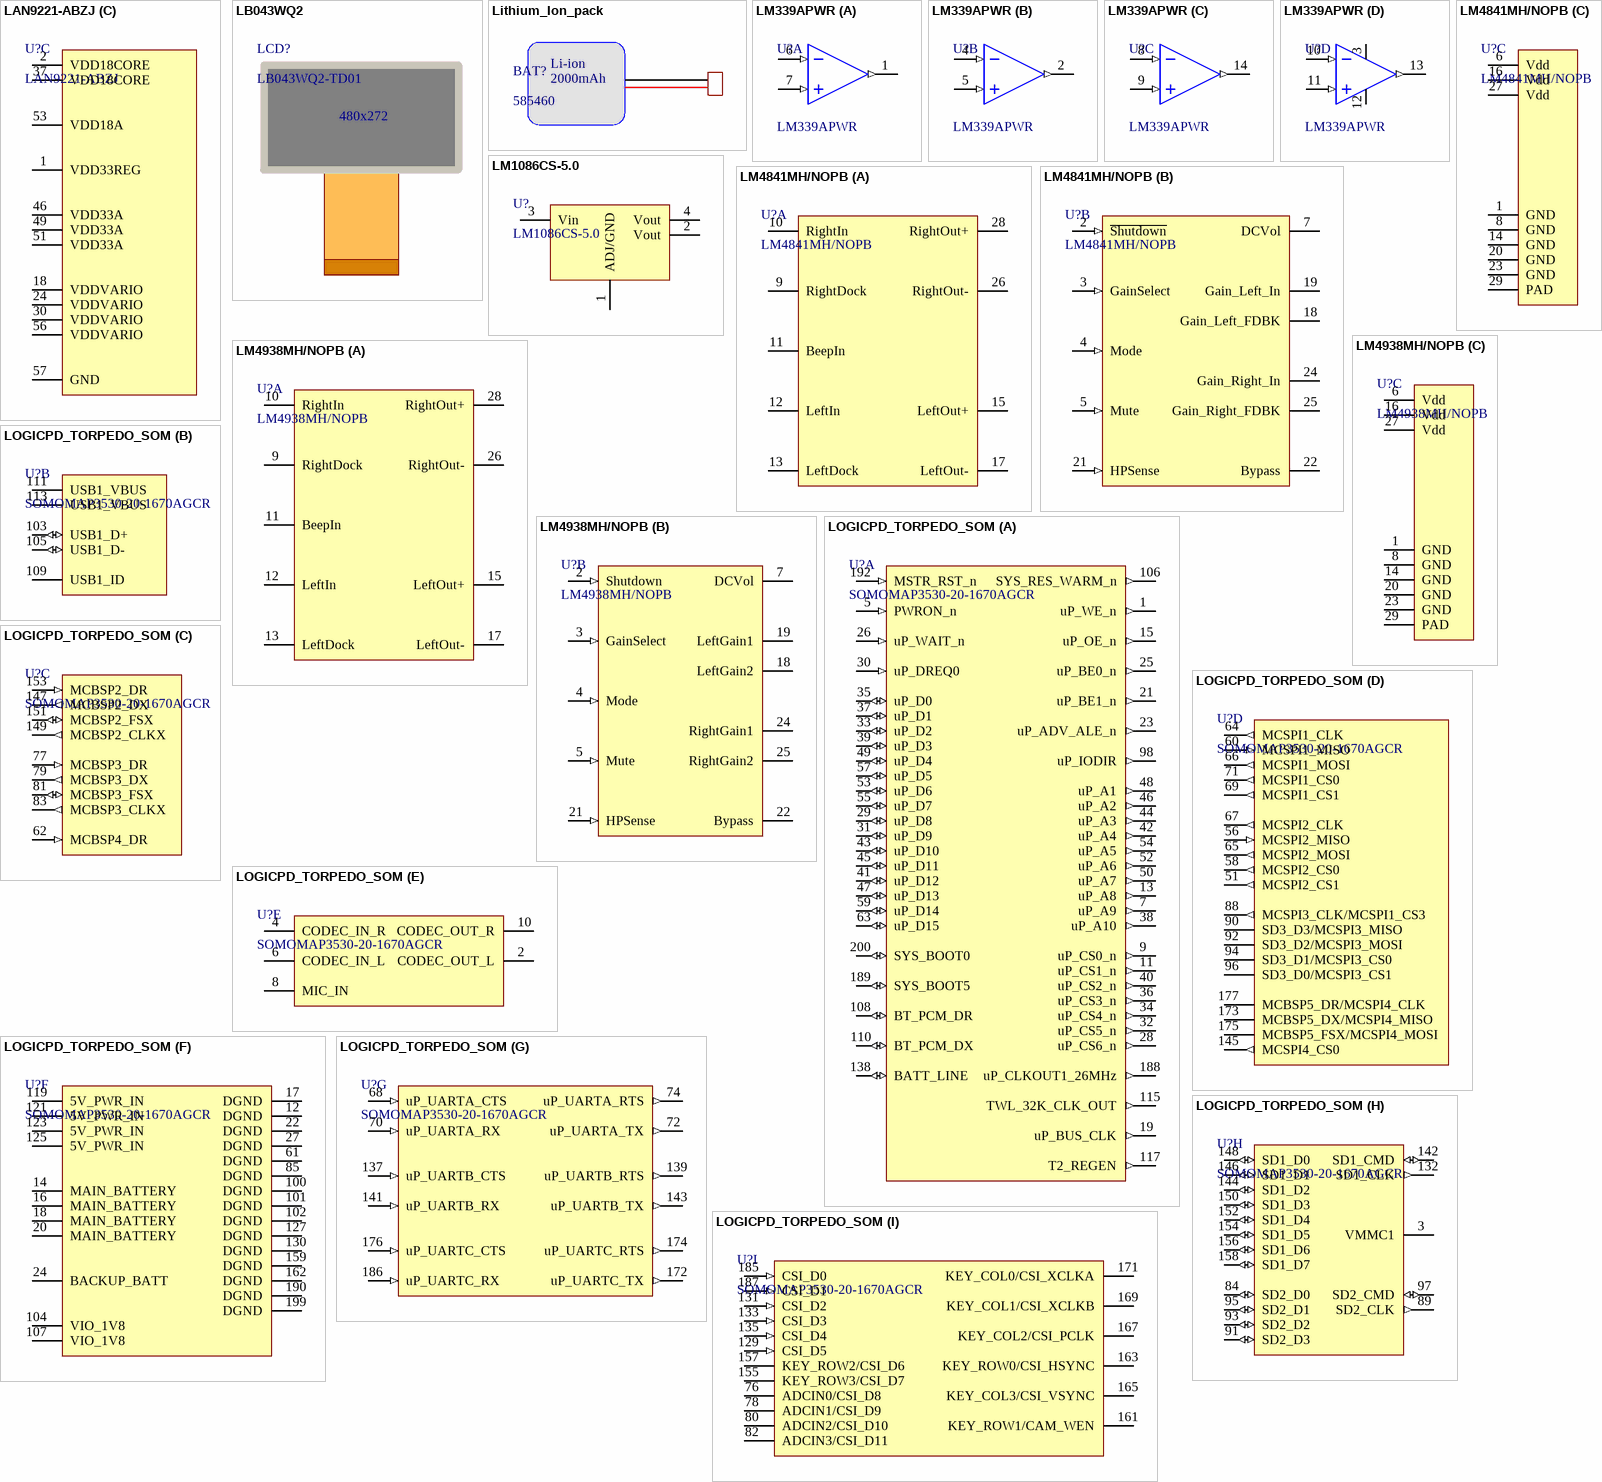
[diagram p4: symbols LAN9221-ABZJ to LOGICPD_TORPEDO_SOM]

## LAN9221-ABZJ
designator U?
SMSC 16-bit 10/100 non-PCI ethernet controller; Manufacturer: SMSC; PartNumber: LAN9221-ABZJ; Supplier 1: Digi-Key; Supplier Part Number 1: 638-1073-ND
footprint QFN50P800X800X100-56N (QFN, 56-Leads, Body 8.1x8.1mm (max), Pitch 0.50mm, IPC Medium Density)
part A pins: 6 A7 (in), 7 A6 (in), 8 A5 (in), 9 A4 (in), 10 A3 (in), 11 A2 (in), 12 A1 (in), 15 RD_n (in), 16 WR_n (in), 17 CS_n (in), 19 D15 (io), 20 D14 (io), 21 D13 (io), 22 D12 (io), 23 D11 (io), 25 D10 (io), 26 D9 (io), 27 D8 (io), 28 D7 (io), 29 D6 (io), 31 D5 (io), 32 D4 (io), 33 D3 (io), 34 D2 (io), 35 D1 (io), 36 D0 (io), 41 PME (out), 42 RESET_n (in), 43 IRQ (out)
part B pins: 3 GPIO0/LED1_n (io), 4 GPIO1/LED2_n (io), 5 GPIO3/LED3_n (io), 13 FIFO_SEL (in), 14 TEST, 38 EEDIO/GPIO3 (io), 39 EECS (out), 40 EECLK/GPIO4 (io), 44 TPO-, 45 TPO+, 47 TPI-, 48 TPI+, 50 EXRES, 52 AMDIX_EN (in), 54 XTAL2, 55 XTAL1/CLKIN (in)
part C pins: 1 VDD33REG (power), 2 VDD18CORE (power), 18 VDDVARIO (power), 24 VDDVARIO (power), 30 VDDVARIO (power), 37 VDD18CORE (power), 46 VDD33A (power), 49 VDD33A (power), 51 VDD33A (power), 53 VDD18A (power), 56 VDDVARIO (power), 57 GND (power)

## LB043WQ2
designator LCD?, comment LB043WQ2-TD01  (mechanical)
4.3" TFT LCD, 480x272; Manufacturer: LG; PartNumber: LB043WQ2-TD01
footprint LG_4.3_LCD (4.3" LG LCD)
text: 480x272

## Lithium_Ion_pack
designator BAT?, comment 585460
Lithium Ion Battery Pack, 2000mAh @ 3.7V; Manufacturer: Union Battery; PartNumber: 585460; Distributor: SparkFun Electronics
footprint Lithium Battery (Union Battery 2000mAh Li-ion battery pack)
text: Li-ion; 2000mAh

## LM339APWR
designator U?
IC QUAD DIFF COMPARATOR 14-TSSOP, 2mV offset voltage; Manufacturer: Texas Instruments; PartNumber: LM339APWR
footprint TSSOP14 (TSSOP14, 4.4mmX5mm)
part A pins: 1 1OUT (out), 6 1IN- (in), 7 1IN+ (in)
part B pins: 2 2OUT (out), 4 2IN- (in), 5 2IN+ (in)
part C pins: 8 3IN- (in), 9 3IN+ (in), 14 3OUT (out)
part D pins: 3 V+ (power), 10 4IN- (in), 11 4IN+ (in), 12 V- (power), 13 4OUT (out)

## LM1086CS-5.0
designator U?
5.0V LDO, 1.5A, TO-263; Manufacturer: National Semiconductor; PartNumber: LM1086CS-5.0
footprint TO-263 (TO-263 package)
pins: 1 ADJ/GND, 2 Vout, 3 Vin, 4 Vout

## LM4841MH/NOPB
designator U?
Stereo 2W Amplifiers with DC Volume Control,  Transient Free Outputs, and Cap-less Headphone Drive; Manufacturer: National Semiconductor; PartNumber: LM4841MH/NOPB
footprint TSOP65P640X110_HS-28N (TSOP, 28-Leads, Body 9.7x4.5mm (max), Pitch 0.65mm, IPC Medium Density)
part A pins: 9 RightDock, 10 RightIn, 11 BeepIn, 12 LeftIn, 13 LeftDock, 15 LeftOut+, 17 LeftOut-, 26 RightOut-, 28 RightOut+ (power)
part B pins: 2 ~{Shutdown} (in), 3 GainSelect (in), 4 Mode (in), 5 Mute (in), 7 DCVol, 18 Gain_Left_FDBK, 19 Gain_Left_In, 21 HPSense (in), 22 Bypass, 24 Gain_Right_In, 25 Gain_Right_FDBK
part C pins: 1 GND (power), 6 Vdd (power), 8 GND (power), 14 GND (power), 16 Vdd (power), 20 GND (power), 23 GND (power), 27 Vdd (power), 29 PAD (power)

## LM4938MH/NOPB
designator U?
Stereo 2W Audio Power Amplifiers  with DC Volume Control and Selectable Gain; Manufacturer: National Semiconductor; PartNumber: LM4938MH/NOPB
footprint TSOP65P640X110_HS-28N (TSOP, 28-Leads, Body 9.7x4.5mm (max), Pitch 0.65mm, IPC Medium Density)
part A pins: 9 RightDock, 10 RightIn, 11 BeepIn, 12 LeftIn, 13 LeftDock, 15 LeftOut+, 17 LeftOut-, 26 RightOut-, 28 RightOut+ (power)
part B pins: 2 Shutdown (in), 3 GainSelect (in), 4 Mode (in), 5 Mute (in), 7 DCVol, 18 LeftGain2, 19 LeftGain1, 21 HPSense (in), 22 Bypass, 24 RightGain1, 25 RightGain2
part C pins: 1 GND (power), 6 Vdd (power), 8 GND (power), 14 GND (power), 16 Vdd (power), 20 GND (power), 23 GND (power), 27 Vdd (power), 29 PAD (power)

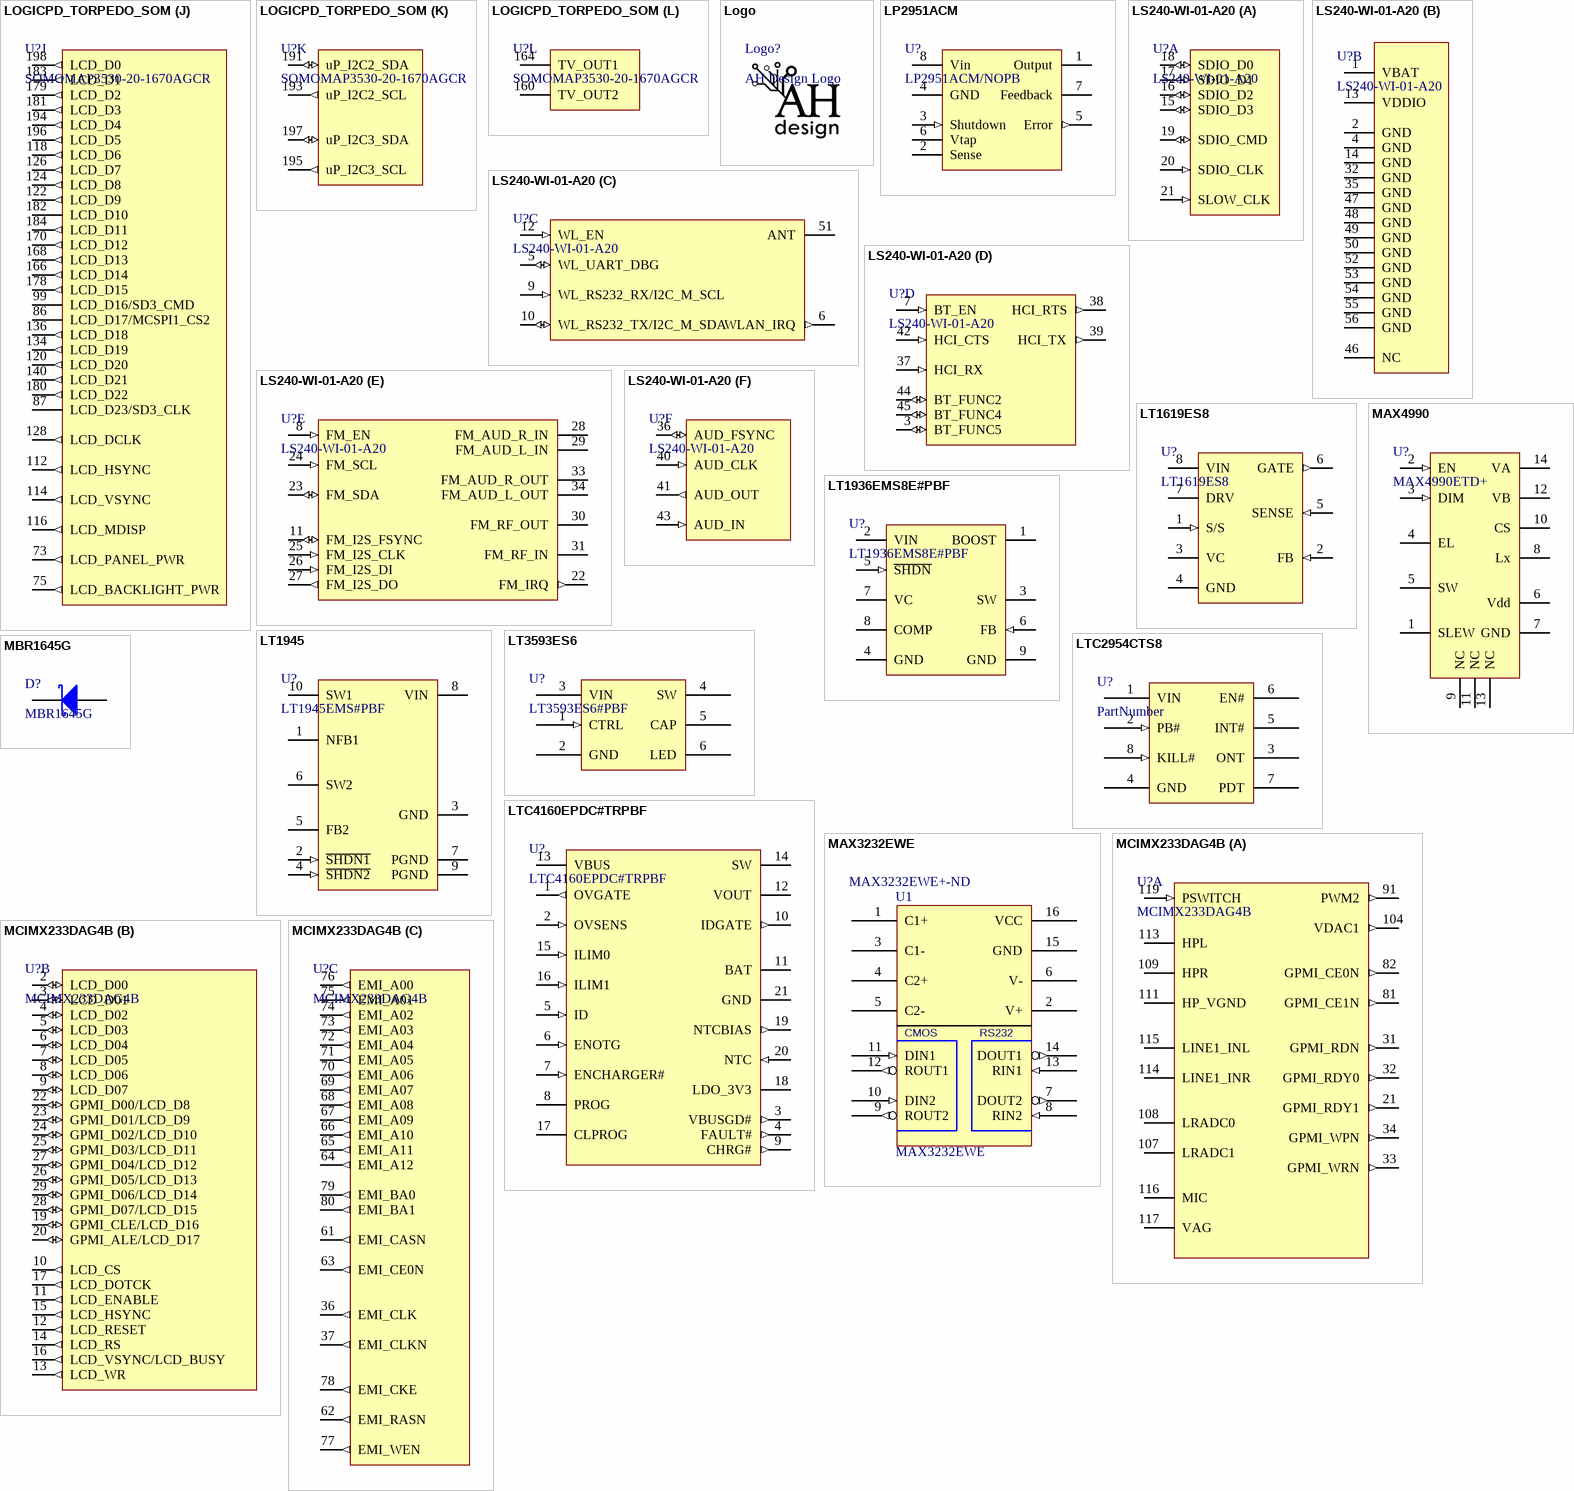
[diagram p5: symbols LOGICPD_TORPEDO_SOM to MCIMX233DAG4B]

## LOGICPD_TORPEDO_SOM
designator U?, comment SOMOMAP3530-20-1670AGCR
LogicPD Torpedo OMAP3530 SOM; PartNumber1: SOMOMAP3530-20-1670AGIR; Manufacturer: LogicPD; PartNumber: SOMOMAP3530-20-1670AGCR
footprint LOGIC_TORPEDO_SOM
part A pins: 1 uP_WE_n (out), 5 PWRON_n (in), 7 uP_A9 (out), 9 uP_CS0_n (out), 11 uP_CS1_n (out), 13 uP_A8 (out), 15 uP_OE_n (out), 19 uP_BUS_CLK (out), 21 uP_BE1_n (out), 23 uP_ADV_ALE_n (out), 25 uP_BE0_n (out), 26 uP_WAIT_n (in), 28 uP_CS6_n (out), 29 uP_D8 (io), 30 uP_DREQ0 (in), 31 uP_D9 (io), 32 uP_CS5_n (out), 33 uP_D2 (io), 34 uP_CS4_n (out), 35 uP_D0 (io), 36 uP_CS3_n (out), 37 uP_D1 (io), 38 uP_A10 (out), 39 uP_D3 (io), 40 uP_CS2_n (out), 41 uP_D12 (io), 42 uP_A4 (out), 43 uP_D10 (io), 44 uP_A3 (out), 45 uP_D11 (io), 46 uP_A2 (out), 47 uP_D13 (io), 48 uP_A1 (out), 49 uP_D4 (io), 50 uP_A7 (out), 52 uP_A6 (out), 53 uP_D6 (io), 54 uP_A5 (out), 55 uP_D7 (io), 57 uP_D5 (io), 59 uP_D14 (io), 63 uP_D15 (io), 98 uP_IODIR (out), 106 SYS_RES_WARM_n (out), 108 BT_PCM_DR (io), 110 BT_PCM_DX (io), 115 TWL_32K_CLK_OUT (out), 117 T2_REGEN (out), 138 BATT_LINE (io), 188 uP_CLKOUT1_26MHz (out), 189 SYS_BOOT5 (io), 192 MSTR_RST_n (in), 200 SYS_BOOT0 (io)
part B pins: 103 USB1_D+ (io), 105 USB1_D- (io), 109 USB1_ID, 111 USB1_VBUS (power), 113 USB1_VBUS (power)
part C pins: 62 MCBSP4_DR (in), 77 MCBSP3_DR (in), 79 MCBSP3_DX (out), 81 MCBSP3_FSX (io), 83 MCBSP3_CLKX (out), 147 MCBSP2_DX (out), 149 MCBSP2_CLKX (out), 151 MCBSP2_FSX (io), 153 MCBSP2_DR (in)
part D pins: 51 MCSPI2_CS1 (out), 56 MCSPI2_MISO (in), 58 MCSPI2_CS0 (out), 60 MCSPI1_MISO (in), 64 MCSPI1_CLK (out), 65 MCSPI2_MOSI (out), 66 MCSPI1_MOSI (out), 67 MCSPI2_CLK (out), 69 MCSPI1_CS1 (out), 71 MCSPI1_CS0 (out), 88 MCSPI3_CLK/MCSPI1_CS3 (out), 90 SD3_D3/MCSPI3_MISO, 92 SD3_D2/MCSPI3_MOSI, 94 SD3_D1/MCSPI3_CS0, 96 SD3_D0/MCSPI3_CS1, 145 MCSPI4_CS0 (out), 173 MCBSP5_DX/MCSPI4_MISO, 175 MCBSP5_FSX/MCSPI4_MOSI, 177 MCBSP5_DR/MCSPI4_CLK
part E pins: 2 CODEC_OUT_L, 4 CODEC_IN_R, 6 CODEC_IN_L, 8 MIC_IN, 10 CODEC_OUT_R
part F pins: 12 DGND (power), 14 MAIN_BATTERY (power), 16 MAIN_BATTERY (power), 17 DGND (power), 18 MAIN_BATTERY (power), 20 MAIN_BATTERY (power), 22 DGND (power), 24 BACKUP_BATT (power), 27 DGND (power), 61 DGND (power), 85 DGND (power), 100 DGND (power), 101 DGND (power), 102 DGND (power), 104 VIO_1V8 (power), 107 VIO_1V8 (power), 119 5V_PWR_IN (power), 121 5V_PWR_IN (power), 123 5V_PWR_IN (power), 125 5V_PWR_IN (power), 127 DGND (power), 130 DGND (power), 159 DGND (power), 162 DGND (power), 190 DGND (power), 199 DGND (power)
part G pins: 68 uP_UARTA_CTS (in), 70 uP_UARTA_RX (in), 72 uP_UARTA_TX (out), 74 uP_UARTA_RTS (out), 137 uP_UARTB_CTS (in), 139 uP_UARTB_RTS (out), 141 uP_UARTB_RX (in), 143 uP_UARTB_TX (out), 172 uP_UARTC_TX (out), 174 uP_UARTC_RTS (out), 176 uP_UARTC_CTS (in), 186 uP_UARTC_RX (in)
part H pins: 3 VMMC1 (power), 84 SD2_D0 (io), 89 SD2_CLK (out), 91 SD2_D3 (io), 93 SD2_D2 (io), 95 SD2_D1 (io), 97 SD2_CMD (io), 132 SD1_CLK (out), 142 SD1_CMD (io), 144 SD1_D2 (io), 146 SD1_D1 (io), 148 SD1_D0 (io), 150 SD1_D3 (io), 152 SD1_D4 (io), 154 SD1_D5 (io), 156 SD1_D6 (io), 158 SD1_D7 (io)
part I pins: 76 ADCIN0/CSI_D8, 78 ADCIN1/CSI_D9, 80 ADCIN2/CSI_D10, 82 ADCIN3/CSI_D11, 129 CSI_D5 (in), 131 CSI_D2 (in), 133 CSI_D3 (in), 135 CSI_D4 (in), 155 KEY_ROW3/CSI_D7, 157 KEY_ROW2/CSI_D6, 161 KEY_ROW1/CAM_WEN, 163 KEY_ROW0/CSI_HSYNC, 165 KEY_COL3/CSI_VSYNC, 167 KEY_COL2/CSI_PCLK, 169 KEY_COL1/CSI_XCLKB, 171 KEY_COL0/CSI_XCLKA, 185 CSI_D0 (in), 187 CSI_D1 (in)
part J pins: 73 LCD_PANEL_PWR (out), 75 LCD_BACKLIGHT_PWR (out), 86 LCD_D17/MCSPI1_CS2, 87 LCD_D23/SD3_CLK, 99 LCD_D16/SD3_CMD, 112 LCD_HSYNC (out), 114 LCD_VSYNC (out), 116 LCD_MDISP (out), 118 LCD_D6 (out), 120 LCD_D20 (out), 122 LCD_D9 (out), 124 LCD_D8 (out), 126 LCD_D7 (out), 128 LCD_DCLK (out), 134 LCD_D19 (out), 136 LCD_D18 (out), 140 LCD_D21 (out), 166 LCD_D14 (out), 168 LCD_D13 (out), 170 LCD_D12 (out), 178 LCD_D15 (out), 179 LCD_D2 (out), 180 LCD_D22 (out), 181 LCD_D3 (out), 182 LCD_D10 (oc), 183 LCD_D1 (out), 184 LCD_D11 (out), 194 LCD_D4 (out), 196 LCD_D5 (out), 198 LCD_D0 (out)
part K pins: 191 uP_I2C2_SDA (io), 193 uP_I2C2_SCL (out), 195 uP_I2C3_SCL (out), 197 uP_I2C3_SDA (io)
part L pins: 160 TV_OUT2, 164 TV_OUT1

## Logo
designator Logo?, comment AH Design Logo  (no BOM)
footprint Logo (AH Design Logo)

## LP2951ACM
designator U?, comment LP2951ACM/NOPB
100mA adjustable LDO; Manufacturer: National Semiconductor; PartNumber: LP2951ACM/NOPB
footprint SOIC8N (SOIC, 8-Leads, Body 5.0x4.0mm (max), Pitch 1.27mm, IPC Medium Density)
pins: 1 Output (power), 2 Sense, 3 Shutdown (in), 4 GND (power), 5 Error (out), 6 Vtap, 7 Feedback, 8 Vin (power)

## LS240-WI-01-A20
designator U?
LS Research 802.11b/g, Bluetooth, FM module; Manufacturer: LS Research; PartNumber: LS240-WI-01-A20
footprint LS240_WI_01_A20 (802.11b/g, Bluetooth, FM module)
part A pins: 15 SDIO_D3 (io), 16 SDIO_D2 (io), 17 SDIO_D1 (io), 18 SDIO_D0 (io), 19 SDIO_CMD (io), 20 SDIO_CLK (in), 21 SLOW_CLK (in)
part B pins: 1 VBAT (power), 2 GND (power), 4 GND (power), 13 VDDIO (power), 14 GND (power), 32 GND (power), 35 GND (power), 46 NC, 47 GND (power), 48 GND (power), 49 GND (power), 50 GND (power), 52 GND (power), 53 GND (power), 54 GND (power), 55 GND (power), 56 GND (power)
part C pins: 5 WL_UART_DBG (io), 6 WLAN_IRQ (out), 9 WL_RS232_RX/I2C_M_SCL (in), 10 WL_RS232_TX/I2C_M_SDA (io), 12 WL_EN (in), 51 ANT
part D pins: 3 BT_FUNC5 (io), 7 BT_EN (in), 37 HCI_RX (in), 38 HCI_RTS (out), 39 HCI_TX (out), 42 HCI_CTS (in), 44 BT_FUNC2 (io), 45 BT_FUNC4 (io)
part E pins: 8 FM_EN (in), 11 FM_I2S_FSYNC (io), 22 FM_IRQ (out), 23 FM_SDA (io), 24 FM_SCL (in), 25 FM_I2S_CLK (in), 26 FM_I2S_DI (in), 27 FM_I2S_DO (out), 28 FM_AUD_R_IN, 29 FM_AUD_L_IN, 30 FM_RF_OUT, 31 FM_RF_IN, 33 FM_AUD_R_OUT, 34 FM_AUD_L_OUT
part F pins: 36 AUD_FSYNC (io), 40 AUD_CLK (in), 41 AUD_OUT (out), 43 AUD_IN (in)

## LT1619ES8
designator U?
Low Voltage Current Mode  PWM Controller; Manufacturer: Linear Technology; PartNumber: LT1619ES8
footprint SOIC8N (SOIC, 8-Leads, Body 5.0x4.0mm (max), Pitch 1.27mm, IPC Medium Density)
pins: 1 S/S (in), 2 FB (in), 3 VC, 4 GND (power), 5 SENSE (in), 6 GATE (out), 7 DRV (power), 8 VIN (power)

## LT1936EMS8E#PBF
designator U?
1.4A, 500kHz Step-Down  Switching Regulator; Manufacturer: Linear Technology; PartNumber: LT1936EMS8E#PBF
footprint MS8-PAD (MSOP, 8-Leads, Body 3.1x3.1mm (max), Pitch 0.65mm, IPC Medium Density)
pins: 1 BOOST, 2 VIN (power), 3 SW, 4 GND (power), 5 ~{SHDN} (in), 6 FB (in), 7 VC, 8 COMP, 9 GND (power)

## LT1945
designator U?, comment LT1945EMS#PBF
Dual Micropower DC/DC  Converter with Positive and  Negative Outputs; Manufacturer: Linear Technology; PartNumber: LT1945EMS#PBF
footprint MSOP10_50P490X110 (MSOP, 10-Leads, Body 3.1x3.1mm (max), Pitch 0.50mm, IPC Medium Density)
pins: 1 NFB1, 2 ~{SHDN1} (in), 3 GND (power), 4 ~{SHDN2} (in), 5 FB2, 6 SW2, 7 PGND (power), 8 VIN (power), 9 PGND (power), 10 SW1

## LT3593ES6
designator U?, comment LT3593ES6#PBF
1MHz White LED Driver with  Output Disconnect and One  Pin Current Programming; Manufacturer: Linear Technology; PartNumber: LT3593ES6#PBF
footprint SOT-23-6 (SOT23, 6-Leads, Body 3.0x3.0mm (max), Pitch 0.95mm, IPC Medium Density)
pins: 1 CTRL (in), 2 GND (power), 3 VIN (power), 4 SW, 5 CAP, 6 LED

## LTC2954CTS8
designator U?, comment PartNumber
Push Button On/Off  Controller with µP Interrupt; Manufacturer: Linear Technology; PartNumber: LTC2954CTS8-2
footprint SOT-23-8L (SOT23, 8-Leads, Body 1.75x3mm (max), Pitch 0.65mm, IPC Medium Density)
pins: 1 VIN (power), 2 PB# (in), 3 ONT, 4 GND (power), 5 INT# (oc), 6 EN# (oc), 7 PDT (oc), 8 KILL# (in)

## LTC4160EPDC#TRPBF
designator U?
Switching Power Manager  with USB On-The-Go And  Overvoltage Protection; Manufacturer: Linear Technology; PartNumber: LTC4160EPDC#TRPBF; Supplier 1: Digi-Key; Supplier Part Number 1: LTC4160EPDC#PBF-ND
footprint QFN50P300X400X60-20M (QFN, 20-Leads, Body 4.1x3.1mm (max), Pitch 0.50mm, IPC Low Density)
pins: 1 OVGATE (out), 2 OVSENS (in), 3 VBUSGD# (out), 4 FAULT# (out), 5 ID (in), 6 ENOTG (in), 7 ENCHARGER# (in), 8 PROG, 9 CHRG# (out), 10 IDGATE (out), 11 BAT (power), 12 VOUT (power), 13 VBUS (power), 14 SW, 15 ILIM0 (in), 16 ILIM1 (in), 17 CLPROG, 18 LDO_3V3 (power), 19 NTCBIAS (out), 20 NTC (in), 21 GND (power)

## MAX3232EWE
designator U1  Supplier Part Number 1: MAX3232EWE+-ND
TI TTL to RS232 2:2 levels Industrial; Manufacturer: Texas Instruments; Approved: Yes by Implementation; PartNumber: MAX3232EWE; LeadFree: Yes; RoHS: Yes; Status: Active; Published: 7/27/2009; Supplier 1: Digi-Key
footprint WSO16_N (16-Pin Small Outline Integrated Circuit 1.27 mm Pitch, IPC Medium Density)
pins: 1 C1+, 2 V+ (power), 3 C1-, 4 C2+, 5 C2-, 6 V- (power), 7 DOUT2 (out), 8 RIN2 (in), 9 ROUT2 (out), 10 DIN2 (in), 11 DIN1 (in), 12 ROUT1 (out), 13 RIN1 (in), 14 DOUT1 (out), 15 GND (power), 16 VCC (power)
text: CMOS; RS232

## MAX4990
designator U?, comment MAX4990ETD+
Dimmable EL-lamp driver; Manufacturer: Maxim; PartNumber: MAX4990ETD+
footprint TDFN-14 (Maxim TDFN-14 leadless package)
pins: 1 SLEW, 2 EN (in), 3 DIM (in), 4 EL, 5 SW, 6 Vdd (power), 7 GND (power), 8 Lx, 9 NC, 10 CS, 11 NC, 12 VB, 13 NC, 14 VA

## MBR1645G
designator D?
DIODE SCHOTTKY 45V 16A  TO-220AC; Manufacturer: ON Semiconductor; PartNumber: MBR1645G
footprint TO220-2 (TO220-2 footprint for schottky diodes)
pins: 1 K, 3 A

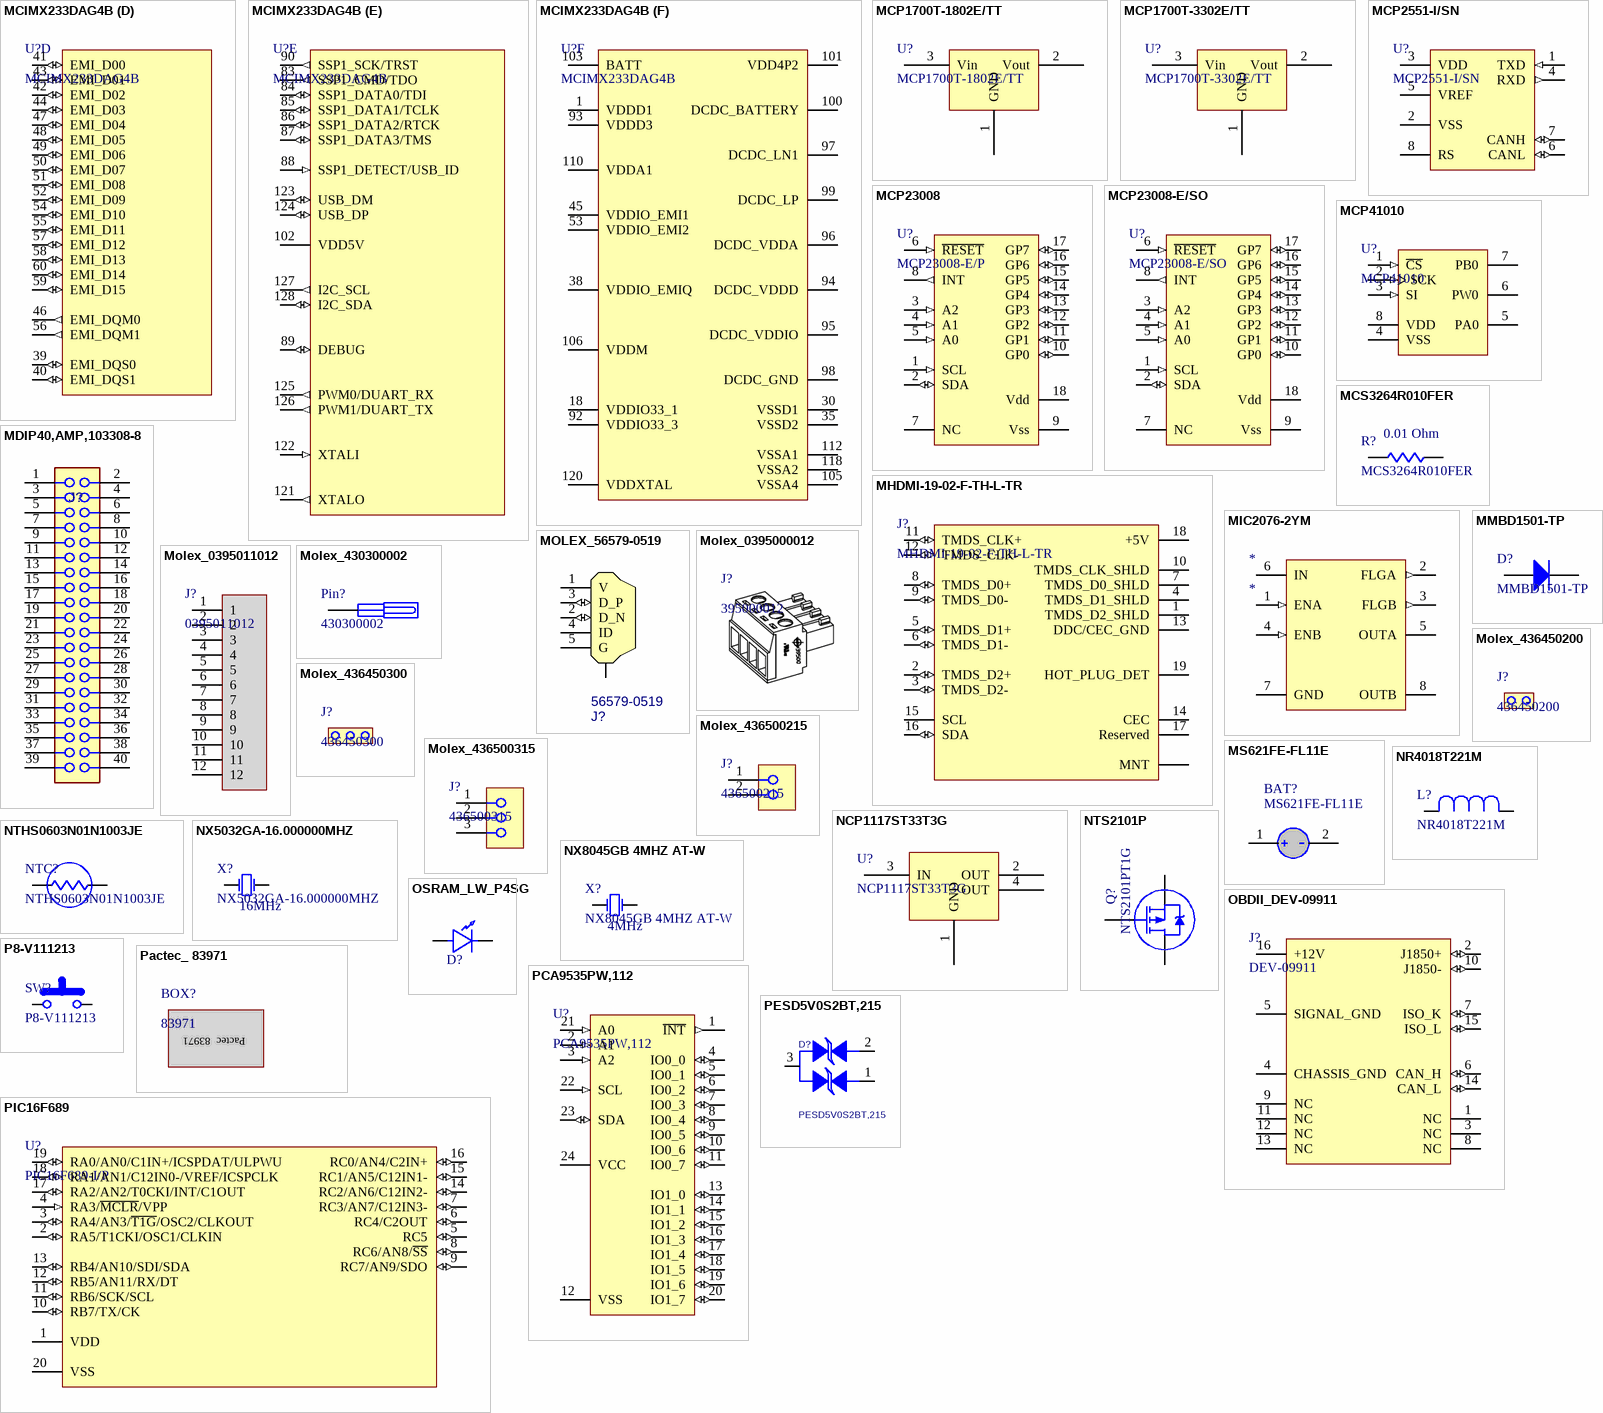
[diagram p6: symbols MCIMX233DAG4B to PIC16F689]